# Altium schematic symbol library Duc.SchLib: 308 symbols (part 1 of 2)
Pins are listed as number, name and electrical type; pins without a type are passive.

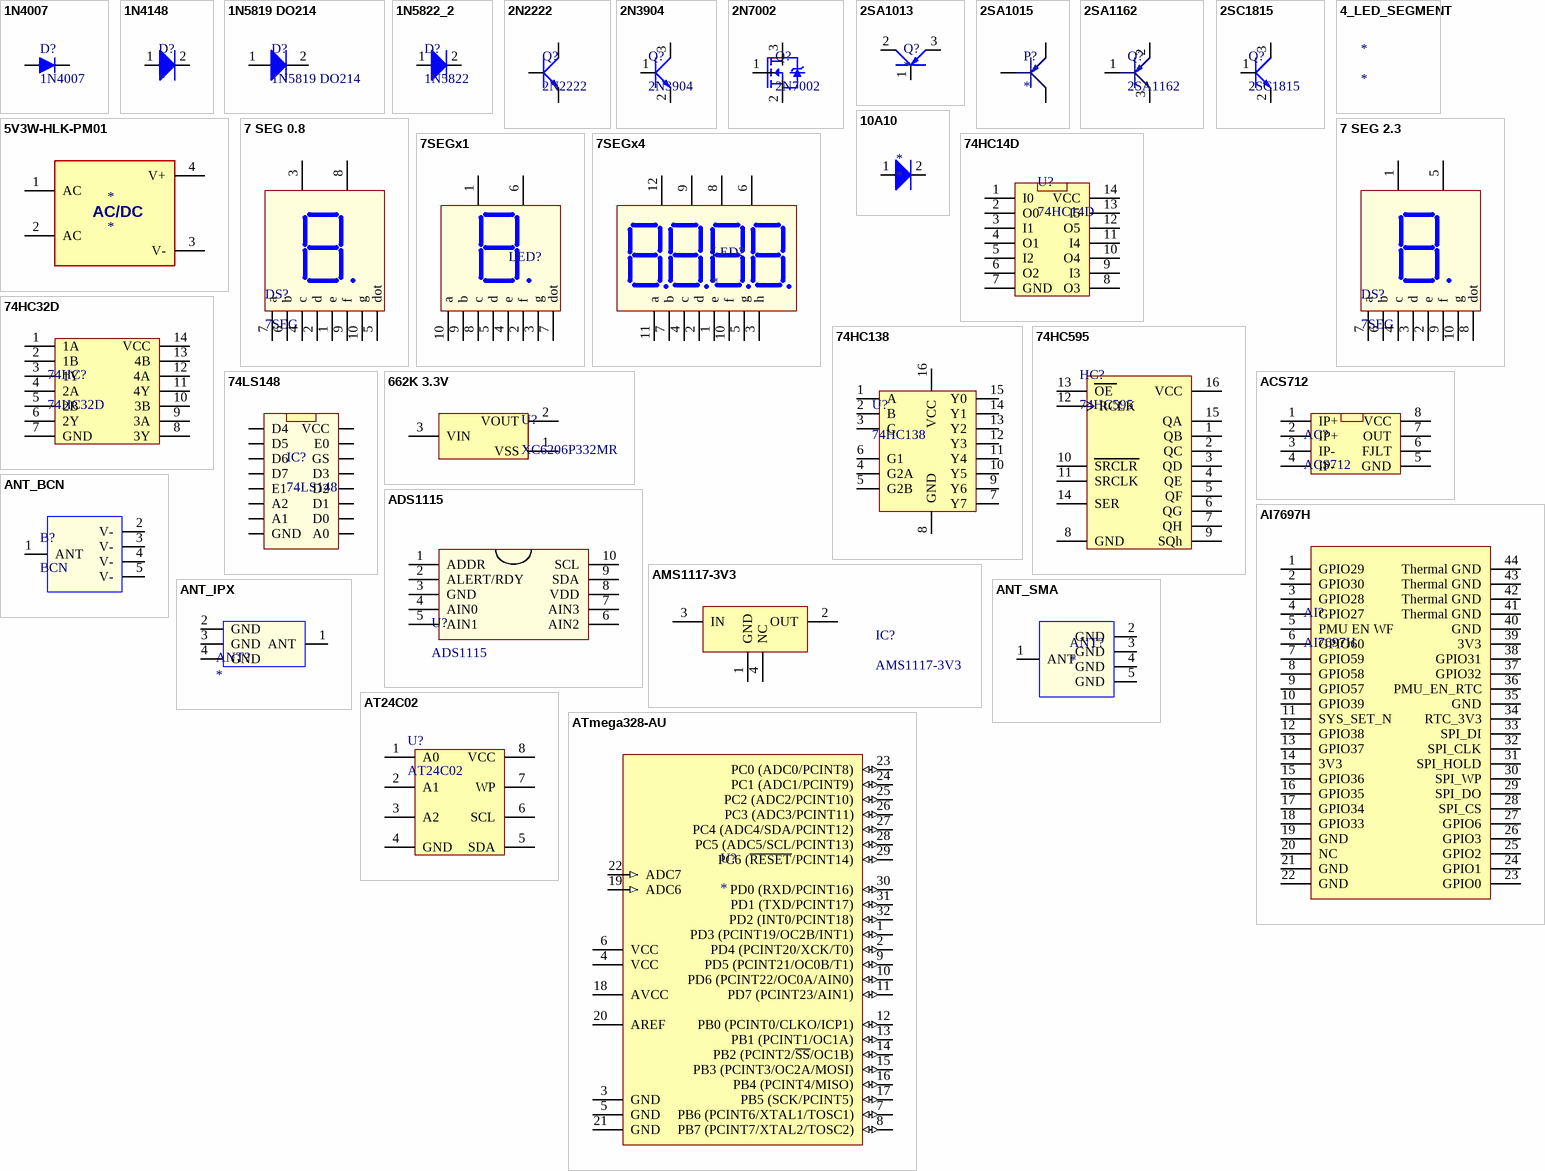
[diagram p0: symbols 1N4007 to ATmega328-AU]

## 1N4007
designator D?
Diode LS 1A 1000V DO-41
footprint 1N4007 (DO-214AC)
pins: 1 A, 2 K

## 1N4148
designator D?
footprint 1N4148
pins: 1 A, 2 K

## 1N5819 DO214
designator D?
footprint 1N5819 DO214 (SMD, Diode SS14 DO214 Schottky 1A 40V)
pins: 1 A, 2 K

## 1N5822_2
designator D?, comment 1N5822
footprint 1N5822 SS34A (SMD, 3A,40V, SS34, DIOT)
pins: 1 A, 2 K

## 2N2222
designator Q?
footprint 2N2222 (NPN transistor)
pins: 1 C, 2 B, 3 E

## 2N3904
designator Q?
footprint 2N3904 SOT23 (SMD, TRANSISTOR NPN)
pins: 1 B, 2 E, 3 C

## 2N7002
designator Q?
footprint 2N7002 (SMD)
pins: 1 G, 2 S, 3 D

## 2SA1013
designator Q?
footprint 2SA1013 (PNP transistor)
pins: 1 B, 2 E, 3 C

## 2SA1015
designator P?
2SA1015 50V 150mA
footprint 2SA1015_SMD (PNP SMD Transistor (No Pb, GP- Green Part), SOT-23 Package)
pins: 1, 2, 3

## 2SA1162
designator Q?
footprint 2SA1162_SMD_PNP (2SA1162,PNP,SMD, TO-236MOD)
pins: 1, 2, 3

## 2SC1815
designator Q?
NPN
footprint 2SC1815 (BJT, through)
footprint 2SC1815-SMD (NPN-VCE=50V,IC=150mA)
pins: 1 B, 2 E, 3 C

## 4_LED_SEGMENT
designator *

## 5V3W-HLK-PM01
designator *
footprint HLK_PM01 5V3W (THOUGH, AC-DC)
footprint PW5V600mA (thought, pow 5V600mA)
pins: 1 AC, 2 AC, 3 V-, 4 V+
text: AC/DC

## 7 SEG 0.8
designator DS?, comment 7SEG
7 SEG 0.8
footprint 7 SEG 0.8 (though, Anot, red)
pins: 1 e, 2 d, 3 GREEN, 4 c, 5 dot, 6 b, 7 a, 8 READ, 9 f, 10 g

## 7 SEG 2.3
designator DS?, comment 7SEG
7 SEG 2.3
footprint 7 SEG 2.3 (thought.)
pins: 1 GREEN, 2 e, 3 d, 4 c, 5 READ, 6 b, 7 a, 8 dot, 9 f, 10 g

## 7SEGx1
designator LED?
footprint 7 SEG 0.36 (0.36 inch LED)
footprint 7 SEG 0.56 (0.56 inch LED)
pins: 1 Vcc, 2 f, 3 g, 4 e, 5 d, 6 Vcc, 7 dot, 8 c, 9 b, 10 a

## 7SEGx4
designator LED?
footprint 7SEGx4 (7segment LED x4)
pins: 1 e, 2 d, 3 h, 4 c, 5 g, 6 V4, 7 b, 8 V3, 9 V2, 10 f, 11 a, 12 V1

## 10A10
designator *
footprint 10A10 (DIODE_10A)
pins: 1 A, 2 K

## 74HC14D
designator U?
footprint 74HC14D (74HC14, SO14, SMD.)
pins: 1 I0, 2 O0, 3 I1, 4 O1, 5 I2, 6 O2, 7 GND, 8 O3, 9 I3, 10 O4, 11 I4, 12 O5, 13 I5, 14 VCC

## 74HC32D
designator 74HC?
footprint 74HC32 SMD (Quad 2-input OR Gate, SOIC14)
pins: 1 1A, 2 1B, 3 1Y, 4 2A, 5 2B, 6 2Y, 7 GND, 8 3Y, 9 3A, 10 3B, 11 4Y, 12 4A, 13 4B, 14 VCC

## 74HC138
designator U?
footprint SN74HC138 SMD (R-PDSO-G16)
pins: 1 A, 2 B, 3 C, 4 G2A, 5 G2B, 6 G1, 7 Y7, 8 GND, 9 Y6, 10 Y5, 11 Y4, 12 Y3, 13 Y2, 14 Y1, 15 Y0, 16 VCC

## 74HC595
designator HC?
footprint 74HC595_SMD (SOI-16,SMD)
pins: 1 QB, 2 QC, 3 QD, 4 QE, 5 QF, 6 QG, 7 QH, 8 GND, 9 SQh, 10 SRCLR, 11 SRCLK, 12 RCLK, 13 OE, 14 SER, 15 QA, 16 VCC

## 74LS148
designator IC?
footprint DIP16 (Though.)
pins: 1 D4, 2 D5, 3 D6, 4 D7, 5 E1, 6 A2, 7 A1, 8 GND, 9 A0, 10 D0, 11 D1, 12 D2, 13 D3, 14 GS, 15 E0, 16 VCC

## 662K 3.3V
designator U?, comment XC6206P332MR
footprint 662K 3.3V (3.3V 0.5A SOT-23)
pins: 1 VSS, 2 VOUT, 3 VIN

## ACS712
designator AC?
ACS712 30A
footprint ACS712 (ACS712, SMD)
pins: 1 IP+, 2 IP+, 3 IP-, 4 IP-, 5 GND, 6 FJLT, 7 OUT, 8 VCC

## ADS1115
designator U?
footprint ADS1115 (DGS(S-PDSO-G10))
pins: 1 ADDR, 2 ALERT/RDY, 3 GND, 4 AIN0, 5 AIN1, 6 AIN2, 7 AIN3, 8 VDD, 9 SDA, 10 SCL

## AI7697H
designator AI?
AI7697H ACSHIP
footprint AI7697H (ic wifi ACSHIP, SMD)
pins: 1 GPIO29, 2 GPIO30, 3 GPIO28, 4 GPIO27, 5 PMU EN WF, 6 GPIO60, 7 GPIO59, 8 GPIO58, 9 GPIO57, 10 GPIO39, 11 SYS_SET_N, 12 GPIO38, 13 GPIO37, 14 3V3, 15 GPIO36, 16 GPIO35, 17 GPIO34, 18 GPIO33, 19 GND, 20 NC, 21 GND, 22 GND, 23 GPIO0, 24 GPIO1, 25 GPIO2, 26 GPIO3, 27 GPIO6, 28 SPI_CS, 29 SPI_DO, 30 SPI_WP, 31 SPI_HOLD, 32 SPI_CLK, 33 SPI_DI, 34 RTC_3V3, 35 GND, 36 PMU_EN_RTC, 37 GPIO32, 38 GPIO31, 39 3V3, 40 GND, 41 Thermal GND, 42 Thermal GND, 43 Thermal GND, 44 Thermal GND

## AMS1117-3V3
designator IC?
AMS1117-3.3V 1A SOT-223; ComponentLink1Description: Datasheet; ComponentLink1URL: D:\Dropbox\Datasheets\Power Management ICs\Linear Regulators\AMS1117.pdf; Unit Price: 0.2000
footprint AMS1117 (SOT223, 4-Leads, Body 6.7x7.3mm (max), Pitch 2.30mm, IPC Medium Density)
pins: 1 GND, 2 OUT, 3 IN, 4 NC

## ANT_BCN
designator B?, comment BCN
ANT_BCN
footprint CONNECTOR BCN (connector bnc female)
pins: 1 ANT, 2 V-, 3 V-, 4 V-, 5 V-

## ANT_IPX
designator ANT?
footprint ANT-IPX-SMD (0­6GHz GSM,  GPRS & CDMA mobile Phones)
pins: 1 ANT, 2 GND, 3 GND, 4 GND

## ANT_SMA
designator ANT?
footprint ANT-SMA-ST-F (SMA Straight PCB Female Connector 50 ohm)
pins: 1 ANT, 2 GND, 3 GND, 4 GND, 5 GND

## AT24C02
designator U?
footprint AT24C02 (SMD,)
pins: 1 A0, 2 A1, 3 A2, 4 GND, 5 SDA, 6 SCL, 7 WP, 8 VCC

## ATmega328-AU
designator U?
8-bit AVR Microcontroller, 32KB Flash, 1KB EEPROM, 2KB SRAM, 32-pin TQFP, Industrial Grade (-40°C to 85°C)
footprint TQFP32 (Thin QFP, 32-Leads, Body 9x9mm, Pitch 0.8mm, IPC Low Density)
pins: 1 PD3 (PCINT19/OC2B/INT1) (io), 2 PD4 (PCINT20/XCK/T0) (io), 3 GND (power), 4 VCC (power), 5 GND (power), 6 VCC (power), 7 PB6 (PCINT6/XTAL1/TOSC1) (io), 8 PB7 (PCINT7/XTAL2/TOSC2) (io), 9 PD5 (PCINT21/OC0B/T1) (io), 10 PD6 (PCINT22/OC0A/AIN0) (io), 11 PD7 (PCINT23/AIN1) (io), 12 PB0 (PCINT0/CLKO/ICP1) (io), 13 PB1 (PCINT1/OC1A) (io), 14 PB2 (PCINT2/~{SS}/OC1B) (io), 15 PB3 (PCINT3/OC2A/MOSI) (io), 16 PB4 (PCINT4/MISO) (io), 17 PB5 (SCK/PCINT5) (io), 18 AVCC (power), 19 ADC6 (in), 20 AREF, 21 GND (power), 22 ADC7 (in), 23 PC0 (ADC0/PCINT8) (io), 24 PC1 (ADC1/PCINT9) (io), 25 PC2 (ADC2/PCINT10) (io), 26 PC3 (ADC3/PCINT11) (io), 27 PC4 (ADC4/SDA/PCINT12) (io), 28 PC5 (ADC5/SCL/PCINT13) (io), 29 PC6 (~{RESET}/PCINT14) (io), 30 PD0 (RXD/PCINT16) (io), 31 PD1 (TXD/PCINT17) (io), 32 PD2 (INT0/PCINT18) (io)

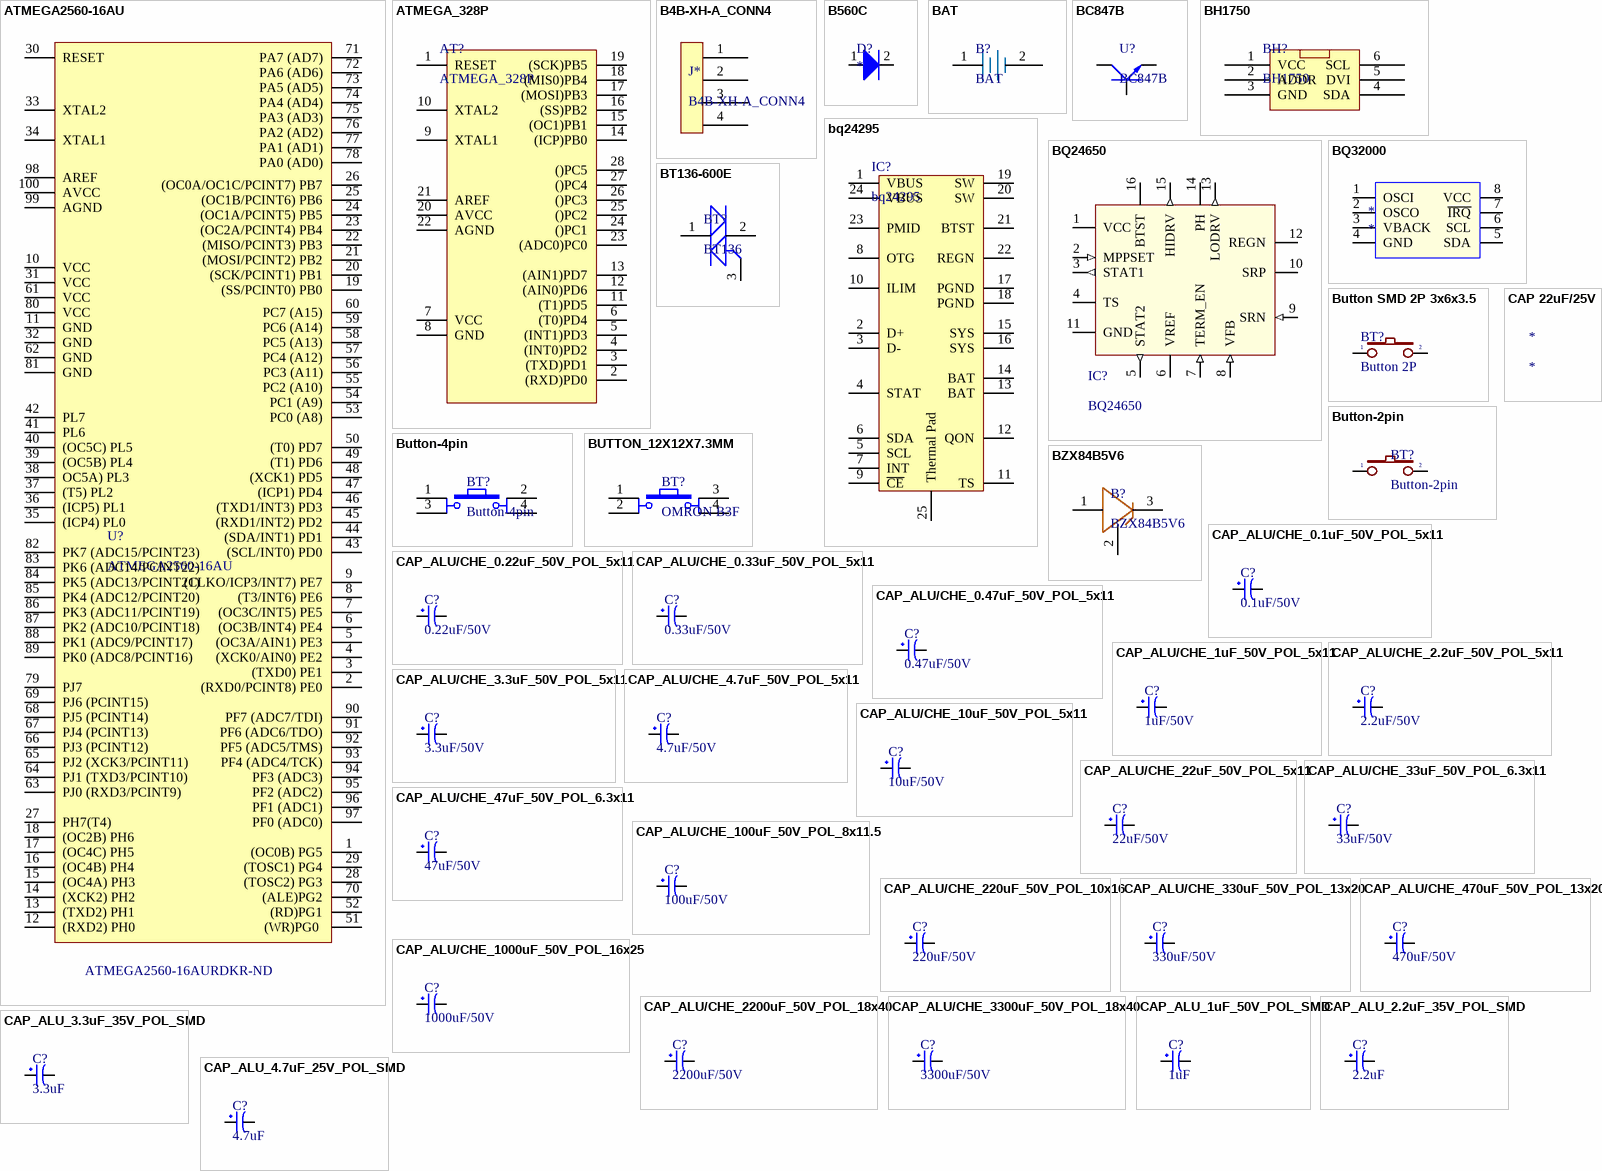
[diagram p1: symbols ATMEGA2560-16AU to CAP_ALU_4.7uF_25V_POL_SMD]

## ATMEGA2560-16AU
designator U?  Supplier Part Number 1: ATMEGA2560-16AURDKR-ND
Manufacturer: Microchip / Atmel; Manufacturer Part Number: ATMEGA2560-16AUR; Core: AVR; Data Bus Width: 8 bit; Supplier 1: Digi-Key; Stock 1: 8300; Pricing 1: 1=12.59, 25=11.5396, 100=10.4475 (USD); Product Category: 8-bit Microcontrollers - MCU; Packaging: Reel; Factory Pack Quantity: 1500; RoHS: Details; ComponentLink1URL: https://datasheet.ciiva.com/6641/atmel-2549-8-bit-avr-microcontroller-atmega640-1280-1281-2560-2561-summary-6641242.pdf; ComponentLink1Description: https://datasheet.ciiva.com/6641/atmel-2549-8-bit-avr-microcontroller-atmega640-1280-1281-2560-2561-summary-6641242.pdf; ComponentLink2URL: https://datasheet.ciiva.com/6641/atmel-2549-8-bit-avr-microcontroller-atmega640-1280-1281-2560-2561-summary-6641243.pdf; ComponentLink2Description: https://datasheet.ciiva.com/6641/atmel-2549-8-bit-avr-microcontroller-atmega640-1280-1281-2560-2561-summary-6641243.pdf; ComponentLink3URL: https://datasheet.ciiva.com/6641/atmel-2549-8-bit-avr-microcontroller-atmega640-1280-1281-2560-2561-summary-6641244.pdf; ComponentLink3Description: https://datasheet.ciiva.com/6641/atmel-2549-8-bit-avr-microcontroller-atmega640-1280-1281-2560-2561-summary-6641244.pdf
footprint Atmega2560-16Au (100A, TQFP)
pins: 1 (OC0B) PG5, 2 (RXD0/PCINT8) PE0, 3 (TXD0) PE1, 4 (XCK0/AIN0) PE2, 5 (OC3A/AIN1) PE3, 6 (OC3B/INT4) PE4, 7 (OC3C/INT5) PE5, 8 (T3/INT6) PE6, 9 (CLKO/ICP3/INT7) PE7, 10 VCC, 11 GND, 12 (RXD2) PH0, 13 (TXD2) PH1, 14 (XCK2) PH2, 15 (OC4A) PH3, 16 (OC4B) PH4, 17 (OC4C) PH5, 18 (OC2B) PH6, 19 (SS/PCINT0) PB0, 20 (SCK/PCINT1) PB1, 21 (MOSI/PCINT2) PB2, 22 (MISO/PCINT3) PB3, 23 (OC2A/PCINT4) PB4, 24 (OC1A/PCINT5) PB5, 25 (OC1B/PCINT6) PB6, 26 (OC0A/OC1C/PCINT7) PB7, 27 PH7(T4), 28 (TOSC2) PG3, 29 (TOSC1) PG4, 30 RESET, 31 VCC, 32 GND, 33 XTAL2, 34 XTAL1, 35 (ICP4) PL0, 36 (ICP5) PL1, 37 (T5) PL2, 38 OC5A) PL3, 39 (OC5B) PL4, 40 (OC5C) PL5, 41 PL6, 42 PL7, 43 (SCL/INT0) PD0, 44 (SDA/INT1) PD1, 45 (RXD1/INT2) PD2, 46 (TXD1/INT3) PD3, 47 (ICP1) PD4, 48 (XCK1) PD5, 49 (T1) PD6, 50 (T0) PD7, 51 (WR)PG0 , 52 (RD)PG1, 53 PC0 (A8), 54 PC1 (A9), 55 PC2 (A10), 56 PC3 (A11), 57 PC4 (A12), 58 PC5 (A13), 59 PC6 (A14), 60 PC7 (A15), 61 VCC, 62 GND, 63 PJ0 (RXD3/PCINT9), 64 PJ1 (TXD3/PCINT10), 65 PJ2 (XCK3/PCINT11), 66 PJ3 (PCINT12), 67 PJ4 (PCINT13), 68 PJ5 (PCINT14), 69 PJ6 (PCINT15), 70 (ALE)PG2, 71 PA7 (AD7), 72 PA6 (AD6), 73 PA5 (AD5), 74 PA4 (AD4), 75 PA3 (AD3), 76 PA2 (AD2), 77 PA1 (AD1), 78 PA0 (AD0), 79 PJ7, 80 VCC, 81 GND, 82 PK7 (ADC15/PCINT23), 83 PK6 (ADC14/PCINT22), 84 PK5 (ADC13/PCINT21), 85 PK4 (ADC12/PCINT20), 86 PK3 (ADC11/PCINT19), 87 PK2 (ADC10/PCINT18), 88 PK1 (ADC9/PCINT17), 89 PK0 (ADC8/PCINT16), 90 PF7 (ADC7/TDI), 91 PF6 (ADC6/TDO), 92 PF5 (ADC5/TMS), 93 PF4 (ADC4/TCK), 94 PF3 (ADC3), 95 PF2 (ADC2), 96 PF1 (ADC1), 97 PF0 (ADC0), 98 AREF, 99 AGND, 100 AVCC

## ATMEGA_328P
designator AT?
footprint DIP_28 (THOUGT)
pins: 1 RESET, 2 (RXD)PD0, 3 (TXD)PD1, 4 (INT0)PD2, 5 (INT1)PD3, 6 (T0)PD4, 7 VCC, 8 GND, 9 XTAL1, 10 XTAL2, 11 (T1)PD5, 12 (AIN0)PD6, 13 (AIN1)PD7, 14 (ICP)PB0, 15 (OC1)PB1, 16 (SS)PB2, 17 (MOSI)PB3, 18 (MIS0)PB4, 19 (SCK)PB5, 20 AVCC, 21 AREF, 22 AGND, 23 (ADC0)PC0, 24 ()PC1, 25 ()PC2, 26 ()PC3, 27 ()PC4, 28 ()PC5

## B4B-XH-A_CONN4
designator J*
footprint B4B-XH-A_CONN4 (B4B-XH-A_CONN4, though, 2.5mm)
pins: 1, 2, 3, 4

## B560C
designator D?
footprint B560C-13-F
pins: 1 A, 2 K

## BAT
designator B?
footprint PIN CR2032 DIP001 (though, DIP001, CR2032)
footprint Pin CR2032 CH4-2032 (CR2032, CH4-2032,   battery holder, stand, 5.4mm)
footprint PINCR1220 (coin cell holder for CR1220)
footprint PIN 18650 (Battery holder thought)
pins: 1, 2

## BC847B
designator U?
footprint BC847B (SMD, BC847B.)
pins: 1 B, 2 E, 3 C

## BH1750
designator BH?
footprint BH1750FVI (SMD,sensor)
pins: 1 VCC, 2 ADDR, 3 GND, 4 SDA, 5 DVI, 6 SCL

## bq24295
designator IC?
footprint bq24295 (bq24295 I2C controler 3A Single Cell USB charger and Boost)
pins: 1 VBUS, 2 D+, 3 D-, 4 STAT, 5 SCL, 6 SDA, 7 INT, 8 OTG, 9 ~{CE}, 10 ILIM, 11 TS, 12 QON, 13 BAT, 14 BAT, 15 SYS, 16 SYS, 17 PGND, 18 PGND, 19 SW, 20 SW, 21 BTST, 22 REGN, 23 PMID, 24 VBUS, 25 Thermal Pad

## BQ24650
designator IC?
footprint BQ24650-16VQFN (Chargeing the battery)
pins: 1 VCC (power), 2 MPPSET (in), 3 STAT1 (out), 4 TS, 5 STAT2 (out), 6 VREF, 7 TERM_EN (in), 8 VFB (in), 9 SRN (in), 10 SRP, 11 GND, 12 REGN, 13 LODRV (out), 14 PH, 15 HIDRV (out), 16 BTST

## BQ32000
designator *
footprint RTC-BQ32000 (8-SOIC)
pins: 1 OSCI, 2 OSCO, 3 VBACK, 4 GND, 5 SDA, 6 SCL, 7 ~{IRQ}, 8 VCC

## BT136-600E
designator BT?, comment BT136
BT136-600E
footprint BT136S-600E TO252N (SMD, TO252N)
footprint BT136-600E DIP TO220 (DIP, TO220)
pins: 1 T1, 2 T2, 3 G

## Button SMD 2P 3x6x3.5
designator BT?, comment Button 2P
Button switch 2 pins SMD 3x6x3.5mm
footprint BUTTON_2P_SMD (SMD, 3*6*2.5cm)
pins: 1, 2

## Button-2pin
designator BT?
footprint Button2pin (B3F-6020)
footprint BUTTON_2PIN_RIGH
footprint button_Right Angle (Right Angle, though)
footprint BUTTON 2PIN MP3 (3x6x3.5, SMD, 2 PIN, MP3-2X3635)
footprint BUTTON_2P_SMD (SMD, 3*6*2.5cm)
pins: 1, 2

## Button-4pin
designator BT?
footprint Button4pin (KSM0611)
pins: 1, 2, 3, 4

## BUTTON_12X12X7.3MM
designator BT?, comment OMRON B3F
footprint BUTTON_OMRON B3F (THOUGHT,  12X12.)
pins: 1, 2, 3, 4

## BZX84B5V6
designator B?
BZX84B5V6, ZENER DIODES.
footprint BZX84B5V6 (SMD, Zener Diodes.)
pins: 1, 2, 3

## CAP 22uF/25V
designator *

## CAP_ALU/CHE_0.1uF_50V_POL_5x11
designator C?, comment 0.1uF/50V
Use for 0.1/0.22/0.33/0.47/1/2.2/3.3/4.7/10/22 uF Capacitor Through Hole
footprint CAP_xUF_50V_TH_5x11 (Use for 0.1/0.22/0.33/0.47/1/2.2/3.3/4.7/10/22 uF Capacitor Through Hole)
pins: 1, 2

## CAP_ALU/CHE_0.22uF_50V_POL_5x11
designator C?, comment 0.22uF/50V
Use for 0.1/0.22/0.33/0.47/1/2.2/3.3/4.7/10/22 uF Capacitor Through Hole
footprint CAP_xUF_50V_TH_5x11 (Use for 0.1/0.22/0.33/0.47/1/2.2/3.3/4.7/10/22 uF Capacitor Through Hole)
pins: 1, 2

## CAP_ALU/CHE_0.33uF_50V_POL_5x11
designator C?, comment 0.33uF/50V
Use for 0.1/0.22/0.33/0.47/1/2.2/3.3/4.7/10/22 uF Capacitor Through Hole
footprint CAP_xUF_50V_TH_5x11 (Use for 0.1/0.22/0.33/0.47/1/2.2/3.3/4.7/10/22 uF Capacitor Through Hole)
pins: 1, 2

## CAP_ALU/CHE_0.47uF_50V_POL_5x11
designator C?, comment 0.47uF/50V
Use for 0.1/0.22/0.33/0.47/1/2.2/3.3/4.7/10/22 uF Capacitor Through Hole
footprint CAP_xUF_50V_TH_5x11 (Use for 0.1/0.22/0.33/0.47/1/2.2/3.3/4.7/10/22 uF Capacitor Through Hole)
pins: 1, 2

## CAP_ALU/CHE_1uF_50V_POL_5x11
designator C?, comment 1uF/50V
Use for 0.1/0.22/0.33/0.47/1/2.2/3.3/4.7/10/22 uF Capacitor Through Hole
footprint CAP_xUF_50V_TH_5x11 (Use for 0.1/0.22/0.33/0.47/1/2.2/3.3/4.7/10/22 uF Capacitor Through Hole)
pins: 1, 2

## CAP_ALU/CHE_2.2uF_50V_POL_5x11
designator C?, comment 2.2uF/50V
Use for 0.1/0.22/0.33/0.47/1/2.2/3.3/4.7/10/22 uF Capacitor Through Hole
footprint CAP_xUF_50V_TH_5x11 (Use for 0.1/0.22/0.33/0.47/1/2.2/3.3/4.7/10/22 uF Capacitor Through Hole)
pins: 1, 2

## CAP_ALU/CHE_3.3uF_50V_POL_5x11
designator C?, comment 3.3uF/50V
Use for 0.1/0.22/0.33/0.47/1/2.2/3.3/4.7/10/22 uF Capacitor Through Hole
footprint CAP_xUF_50V_TH_5x11 (Use for 0.1/0.22/0.33/0.47/1/2.2/3.3/4.7/10/22 uF Capacitor Through Hole)
pins: 1, 2

## CAP_ALU/CHE_4.7uF_50V_POL_5x11
designator C?, comment 4.7uF/50V
Use for 0.1/0.22/0.33/0.47/1/2.2/3.3/4.7/10/22 uF Capacitor Through Hole
footprint CAP_xUF_50V_TH_5x11 (Use for 0.1/0.22/0.33/0.47/1/2.2/3.3/4.7/10/22 uF Capacitor Through Hole)
pins: 1, 2

## CAP_ALU/CHE_10uF_50V_POL_5x11
designator C?, comment 10uF/50V
Use for 0.1/0.22/0.33/0.47/1/2.2/3.3/4.7/10/22 uF Capacitor Through Hole
footprint CAP_xUF_50V_TH_5x11 (Use for 0.1/0.22/0.33/0.47/1/2.2/3.3/4.7/10/22 uF Capacitor Through Hole)
pins: 1, 2

## CAP_ALU/CHE_22uF_50V_POL_5x11
designator C?, comment 22uF/50V
Use for 0.1/0.22/0.33/0.47/1/2.2/3.3/4.7/10/22 uF Capacitor Through Hole
footprint CAP_xUF_50V_TH_5x11 (Use for 0.1/0.22/0.33/0.47/1/2.2/3.3/4.7/10/22 uF Capacitor Through Hole)
pins: 1, 2

## CAP_ALU/CHE_33uF_50V_POL_6.3x11
designator C?, comment 33uF/50V
Use for 33/47 uF Capacitor Through Hole
footprint CAP_xUF_50V_TH_6.3x11 (Use for 33/47 uF Capacitor Through Hole)
pins: 1, 2

## CAP_ALU/CHE_47uF_50V_POL_6.3x11
designator C?, comment 47uF/50V
Use for 33/47 uF Capacitor Through Hole
footprint CAP_xUF_50V_TH_6.3x11 (Use for 33/47 uF Capacitor Through Hole)
pins: 1, 2

## CAP_ALU/CHE_100uF_50V_POL_8x11.5
designator C?, comment 100uF/50V
Use for 100uF Capacitor Through Hole
footprint CAP_xUF_50V_TH_8x11.5 (Use for 47uF Capacitor Through Hole)
pins: 1, 2

## CAP_ALU/CHE_220uF_50V_POL_10x16
designator C?, comment 220uF/50V
Use for 220uF Capacitor Through Hole
footprint CAP_xUF_50V_TH_10x16 (Use for 220uF Capacitor Through Hole)
pins: 1, 2

## CAP_ALU/CHE_330uF_50V_POL_13x20
designator C?, comment 330uF/50V
Use for 330/470 uF Capacitor Through Hole
footprint CAP_xUF_50V_TH_13x20 (Use for 330/470 uF Capacitor Through Hole)
pins: 1, 2

## CAP_ALU/CHE_470uF_50V_POL_13x20
designator C?, comment 470uF/50V
Use for 330/470 uF Capacitor Through Hole
footprint CAP_xUF_50V_TH_13x20 (Use for 330/470 uF Capacitor Through Hole)
pins: 1, 2

## CAP_ALU/CHE_1000uF_50V_POL_16x25
designator C?, comment 1000uF/50V
Use for 1000uF Capacitor Through Hole
footprint CAP_xUF_50V_TH_16x25 (Use for 1000uF Capacitor Through Hole)
pins: 1, 2

## CAP_ALU/CHE_2200uF_50V_POL_18x40
designator C?, comment 2200uF/50V
Use for 2200uF Capacitor Through Hole
footprint CAP_xUF_50V_TH_13x20 (Use for 330/470 uF Capacitor Through Hole)
pins: 1, 2

## CAP_ALU/CHE_3300uF_50V_POL_18x40
designator C?, comment 3300uF/50V
Use for 3300uF Capacitor Through Hole
footprint CAP_xUF_50V_TH_22x40
footprint CAP_xUF_50V_TH_22x40 - Horizontal
pins: 1, 2

## CAP_ALU_1uF_50V_POL_SMD
designator C?, comment 1uF
Aluminum Capacitor 1uF Size B
footprint CAP_ALU_SIZEB (Panasonic Aluminum Capacitor)
pins: 1, 2

## CAP_ALU_2.2uF_35V_POL_SMD
designator C?, comment 2.2uF
Aluminum Capacitor 2.2uF size B
footprint CAP_ALU_SIZEB (Panasonic Aluminum Capacitor)
pins: 1, 2

## CAP_ALU_3.3uF_35V_POL_SMD
designator C?, comment 3.3uF
Aluminum Capacitor 3.3uF size B
footprint CAP_ALU_SIZEB (Panasonic Aluminum Capacitor)
pins: 1, 2

## CAP_ALU_4.7uF_25V_POL_SMD
designator C?, comment 4.7uF
Aluminum Capacitor 4.7uF size B
footprint CAP_ALU_SIZEB (Panasonic Aluminum Capacitor)
pins: 1, 2

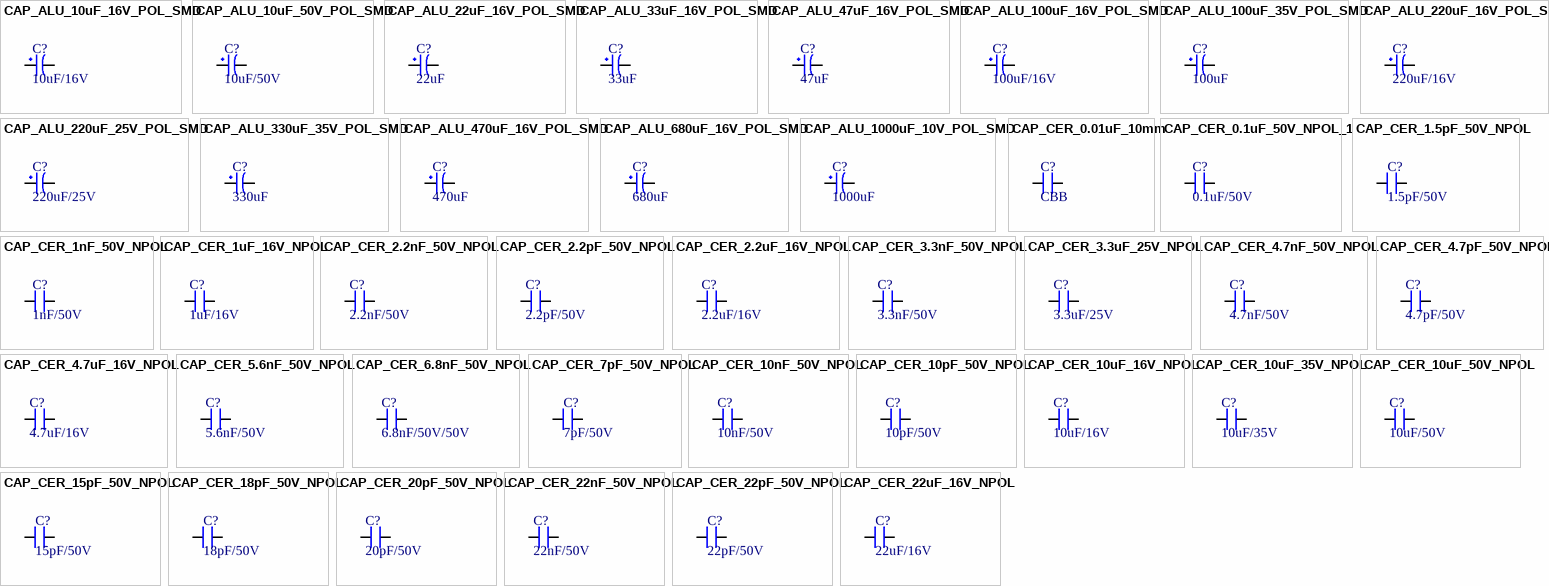
[diagram p2: symbols CAP_ALU_10uF_16V_POL_SMD to CAP_CER_22uF_16V_NPOL]

## CAP_ALU_10uF_16V_POL_SMD
designator C?, comment 10uF/16V
Aluminum Capacitor 10uF size B
footprint CAP_ALU_SIZEB (Panasonic Aluminum Capacitor)
pins: 1, 2

## CAP_ALU_10uF_50V_POL_SMD
designator C?, comment 10uF/50V
Aluminum Capacitor 10uF size B
footprint CAP_ALU_SIZEC (Panasonic Aluminum Capacitor)
pins: 1, 2

## CAP_ALU_22uF_16V_POL_SMD
designator C?, comment 22uF
Aluminum Capacitor 22uF size B
footprint CAP_ALU_SIZEB (Panasonic Aluminum Capacitor)
pins: 1, 2

## CAP_ALU_33uF_16V_POL_SMD
designator C?, comment 33uF
Aluminum Capacitor 33uF size C
footprint CAP_ALU_SIZEC (Panasonic Aluminum Capacitor)
pins: 1, 2

## CAP_ALU_47uF_16V_POL_SMD
designator C?, comment 47uF
Aluminum Capacitor 47uF size D
footprint CAP_ALU_SIZED8 (Panasonic Aluminum Capacitor)
pins: 1, 2

## CAP_ALU_100uF_16V_POL_SMD
designator C?, comment 100uF/16V
Aluminum Capacitor 100uF size E
footprint CAP_ALU_SIZEE (Panasonic Aluminum Capacitor)
pins: 1, 2

## CAP_ALU_100uF_35V_POL_SMD
designator C?, comment 100uF
Aluminum Capacitor 100uF size D
footprint CAP_ALU_SIZED8 (Panasonic Aluminum Capacitor)
pins: 1, 2

## CAP_ALU_220uF_16V_POL_SMD
designator C?, comment 220uF/16V
Aluminum Capacitor 220uF size D8
footprint CAP_ALU_SIZED8 (Panasonic Aluminum Capacitor)
pins: 1, 2

## CAP_ALU_220uF_25V_POL_SMD
designator C?, comment 220uF/25V
Capacitor Aluminum 220uF/25V size E
footprint CAP_ALU_SIZEE (Panasonic Aluminum Capacitor)
pins: 1, 2

## CAP_ALU_330uF_35V_POL_SMD
designator C?, comment 330uF
Aluminum Capacitor 330uF size G
footprint CAP_ALU_SIZEG (Panasonic Aluminum Capacitor)
pins: 1, 2

## CAP_ALU_470uF_16V_POL_SMD
designator C?, comment 470uF
Aluminum Capacitor 220uF size F
footprint CAP_ALU_SIZEF (Panasonic Aluminum Capacitor)
pins: 1, 2

## CAP_ALU_680uF_16V_POL_SMD
designator C?, comment 680uF
Capacitor Aluminum 680uF/16V size G
footprint CAP_ALU_SIZEG (Panasonic Aluminum Capacitor)
pins: 1, 2

## CAP_ALU_1000uF_10V_POL_SMD
designator C?, comment 1000uF
Aluminum Capacitor 680uF size G
footprint CAP_ALU_SIZEG (Panasonic Aluminum Capacitor)
pins: 1, 2

## CAP_CER_0.01uF_10mm
designator C?, comment CBB
CAP_CER_0.01uF_10mm
footprint Capacitor CBB21 10mm (Capacitor CBB21, 10mm, w=12mm)
pins: 1, 2

## CAP_CER_0.1uF_50V_NPOL_1
designator C?, comment 0.1uF/50V
Ceramic Capacitor 1nF/50V (+-20% TH)/(+10%SMD)
footprint CAP_10x_TH (CAP 10x)
footprint Cap 0805(2012) (Capacitor 0805)
footprint CAP 0603(1508) (Capacitor 0603)
footprint CAP 1206(3216) (Capacitor 1206)
pins: 1, 2

## CAP_CER_1.5pF_50V_NPOL
designator C?, comment 1.5pF/50V
Ceramic Capacitor 1.5pF/50V (+-10% TH)/(+5%SMD)
footprint Cap 0805(2012) (Capacitor 0805)
pins: 1, 2

## CAP_CER_1nF_50V_NPOL
designator C?, comment 1nF/50V
Ceramic Capacitor 1nF/50V (+-20% TH)/(+10%SMD)
footprint CAP_10x_TH (CAP 10x)
footprint Cap 0805(2012) (Capacitor 0805)
footprint CAP 0603(1508) (Capacitor 0603)
pins: 1, 2

## CAP_CER_1uF_16V_NPOL
designator C?, comment 1uF/16V
Ceramic Capacitor 1uF/16V (+-10% TH)/(+10%SMD)
footprint Cap 0805(2012) (Capacitor 0805)
footprint CAP 0603(1508) (Capacitor 0603)
pins: 1, 2

## CAP_CER_2.2nF_50V_NPOL
designator C?, comment 2.2nF/50V
Ceramic Capacitor 2.2nF/50V (+-10% TH)/(+10%SMD)
footprint Cap 0805(2012) (Capacitor 0805)
footprint CAP 0603(1508) (Capacitor 0603)
pins: 1, 2

## CAP_CER_2.2pF_50V_NPOL
designator C?, comment 2.2pF/50V
Ceramic Capacitor 2.2pF/50V (+-10% TH)/(+10%SMD)
footprint CAP 0603(1508) (Capacitor 0603)
pins: 1, 2

## CAP_CER_2.2uF_16V_NPOL
designator C?, comment 2.2uF/16V
Ceramic Capacitor 2.2uF/16V (+-10% TH)/(+10%SMD)
footprint Cap 0805(2012) (Capacitor 0805)
pins: 1, 2

## CAP_CER_3.3nF_50V_NPOL
designator C?, comment 3.3nF/50V
Ceramic Capacitor 3.3nF/50V (+-10% TH)/(+10%SMD)
footprint Cap 0805(2012) (Capacitor 0805)
footprint CAP 0603(1508) (Capacitor 0603)
pins: 1, 2

## CAP_CER_3.3uF_25V_NPOL
designator C?, comment 3.3uF/25V
Ceramic Capacitor 3.3uF/25V (+-10% TH)/(+10%SMD)
footprint Cap 0805(2012) (Capacitor 0805)
pins: 1, 2

## CAP_CER_4.7nF_50V_NPOL
designator C?, comment 4.7nF/50V
Ceramic Capacitor 4.7nF/50V (+-10% TH)/(+10%SMD)
footprint Cap 0805(2012) (Capacitor 0805)
pins: 1, 2

## CAP_CER_4.7pF_50V_NPOL
designator C?, comment 4.7pF/50V
Ceramic Capacitor 4.7pF/50V (+-10% TH)/(+10%SMD)
footprint Cap 0805(2012) (Capacitor 0805)
pins: 1, 2

## CAP_CER_4.7uF_16V_NPOL
designator C?, comment 4.7uF/16V
Ceramic Capacitor 4.7uF/16V (+-10% TH)/(+10%SMD)
footprint Cap 0805(2012) (Capacitor 0805)
footprint CAP 0603(1508) (Capacitor 0603)
footprint CAP 1210(3225) (Capacitor 1210)
pins: 1, 2

## CAP_CER_5.6nF_50V_NPOL
designator C?, comment 5.6nF/50V
Ceramic Capacitor 5.6nF/50V (+-10% TH)/(+10%SMD)
footprint Cap 0805(2012) (Capacitor 0805)
pins: 1, 2

## CAP_CER_6.8nF_50V_NPOL
designator C?, comment 6.8nF/50V/50V
Ceramic Capacitor 6.8nF/50V (+-10% TH)/(+10%SMD)
footprint Cap 0805(2012) (Capacitor 0805)
pins: 1, 2

## CAP_CER_7pF_50V_NPOL
designator C?, comment 7pF/50V
Ceramic Capacitor 7pF/50V (+-10% TH)/(+5%SMD)
footprint Cap 0805(2012) (Capacitor 0805)
pins: 1, 2

## CAP_CER_10nF_50V_NPOL
designator C?, comment 10nF/50V
Ceramic Capacitor 10nF/50V (+-10% TH)/(+10%SMD)
footprint CAP_10x_TH (CAP 10x)
footprint CAP 0603(1508) (Capacitor 0603)
footprint Cap 0805(2012) (Capacitor 0805)
pins: 1, 2

## CAP_CER_10pF_50V_NPOL
designator C?, comment 10pF/50V
Ceramic Capacitor 10pF/50V (+-10% TH)/(+10%SMD)
footprint CAP 0603(1508) (Capacitor 0603)
footprint Cap 0805(2012) (Capacitor 0805)
pins: 1, 2

## CAP_CER_10uF_16V_NPOL
designator C?, comment 10uF/16V
Ceramic Capacitor 10uF/16V (+-10% TH)/(+10%SMD)
footprint Cap 0805(2012) (Capacitor 0805)
footprint CAP 0603(1508) (Capacitor 0603)
pins: 1, 2

## CAP_CER_10uF_35V_NPOL
designator C?, comment 10uF/35V
Ceramic Capacitor 10uF/35V (+-10% TH)/(+10%SMD)
footprint CAP 1210(3225) (Capacitor 1210)
pins: 1, 2

## CAP_CER_10uF_50V_NPOL
designator C?, comment 10uF/50V
Ceramic Capacitor 10uF/50V (+-10% TH)/(+10%SMD)
footprint CAP 1210(3225) (Capacitor 1210)
pins: 1, 2

## CAP_CER_15pF_50V_NPOL
designator C?, comment 15pF/50V
Ceramic Capacitor 15pF/50V (+-10% TH)/(+5%SMD)
footprint CAP_10x_TH (CAP 10x)
footprint CAP 0603(1508) (Capacitor 0603)
footprint Cap 0805(2012) (Capacitor 0805)
pins: 1, 2

## CAP_CER_18pF_50V_NPOL
designator C?, comment 18pF/50V
Ceramic Capacitor 18pF/50V (+-10% TH)/(+5%SMD)
footprint CAP_10x_TH (CAP 10x)
footprint CAP 0603(1508) (Capacitor 0603)
footprint Cap 0805(2012) (Capacitor 0805)
pins: 1, 2

## CAP_CER_20pF_50V_NPOL
designator C?, comment 20pF/50V
Ceramic Capacitor 20pF/50V (+-10% TH)/(+5%SMD)
footprint CAP 0603(1508) (Capacitor 0603)
pins: 1, 2

## CAP_CER_22nF_50V_NPOL
designator C?, comment 22nF/50V
Ceramic Capacitor 22nF/50V (+-10% TH)/(+10%SMD)
footprint Cap 0805(2012) (Capacitor 0805)
pins: 1, 2

## CAP_CER_22pF_50V_NPOL
designator C?, comment 22pF/50V
Ceramic Capacitor 22pF/50V (+-10% TH)/(+5%SMD)
footprint CAP_10x_TH (CAP 10x)
footprint CAP 0603(1508) (Capacitor 0603)
footprint Cap 0805(2012) (Capacitor 0805)
pins: 1, 2

## CAP_CER_22uF_16V_NPOL
designator C?, comment 22uF/16V
Ceramic Capacitor 22uF/16V (+-10% TH)/(+5%SMD)
footprint CAP 1210(3225) (Capacitor 1210)
pins: 1, 2

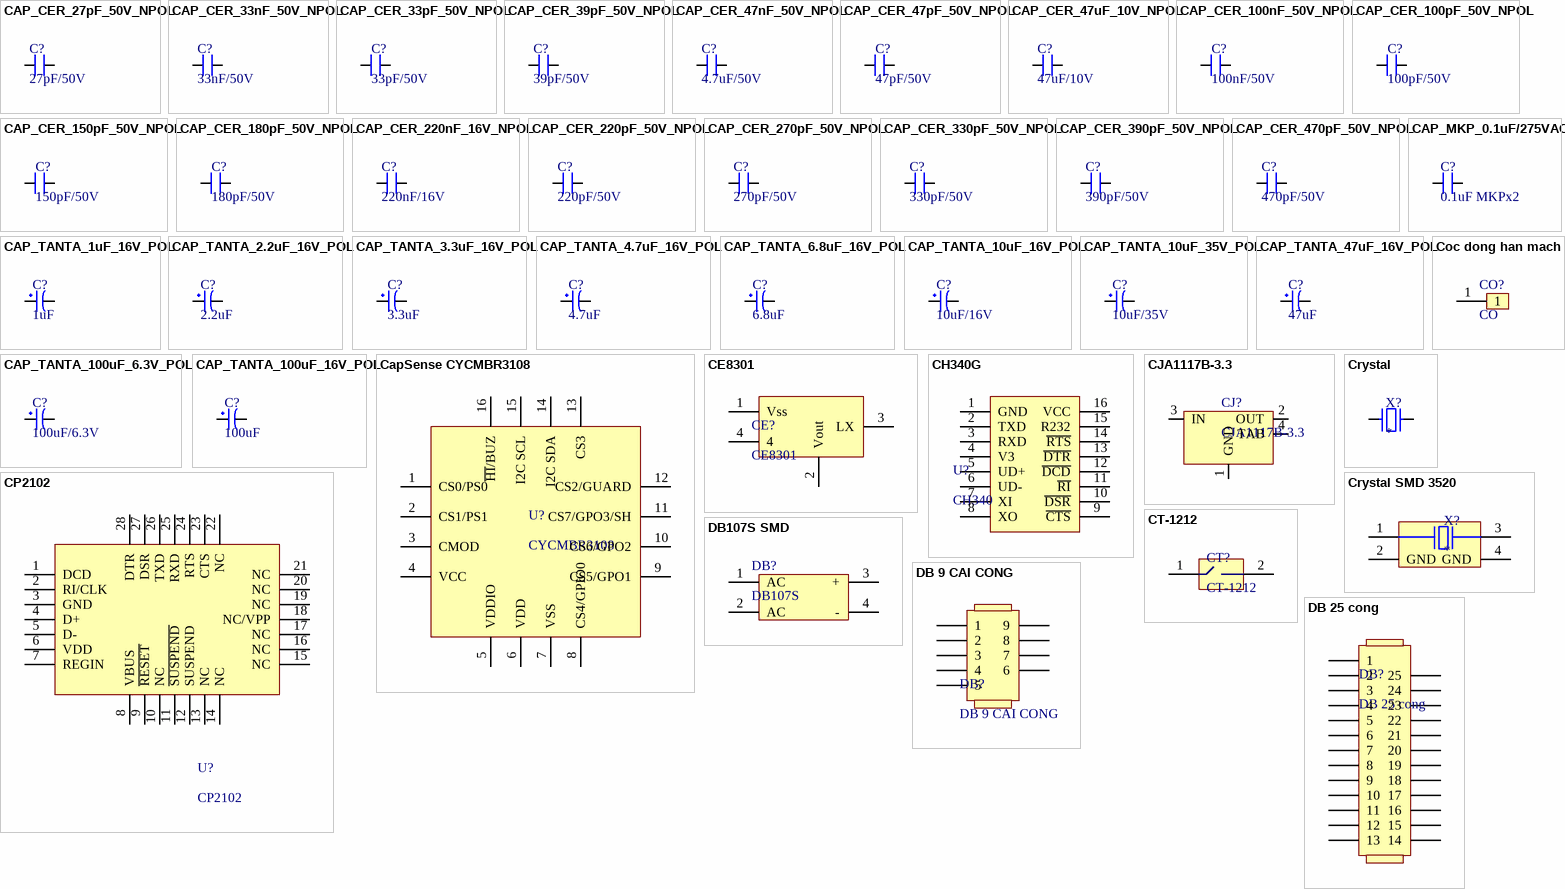
[diagram p3: symbols CAP_CER_27pF_50V_NPOL to DB 25 cong]

## CAP_CER_27pF_50V_NPOL
designator C?, comment 27pF/50V
Ceramic Capacitor 27pF/50V (+-10% TH)/(+10%SMD)
footprint Cap 0805(2012) (Capacitor 0805)
footprint CAP 0603(1508) (Capacitor 0603)
pins: 1, 2

## CAP_CER_33nF_50V_NPOL
designator C?, comment 33nF/50V
Ceramic Capacitor 33nF/50V (+-10% TH)/(+10%SMD)
footprint Cap 0805(2012) (Capacitor 0805)
pins: 1, 2

## CAP_CER_33pF_50V_NPOL
designator C?, comment 33pF/50V
Ceramic Capacitor 33pF/50V (+-10% TH)/(+5%SMD)
footprint CAP_10x_TH (CAP 10x)
footprint CAP 0603(1508) (Capacitor 0603)
footprint Cap 0805(2012) (Capacitor 0805)
pins: 1, 2

## CAP_CER_39pF_50V_NPOL
designator C?, comment 39pF/50V
Ceramic Capacitor 39pF/50V (+-10% TH)/(+10%SMD)
footprint Cap 0805(2012) (Capacitor 0805)
footprint CAP 0603(1508) (Capacitor 0603)
pins: 1, 2

## CAP_CER_47nF_50V_NPOL
designator C?, comment 4.7uF/50V
Ceramic Capacitor 47nF/50V(+-10% TH)/(+10%SMD)
footprint Cap 0805(2012) (Capacitor 0805)
pins: 1, 2

## CAP_CER_47pF_50V_NPOL
designator C?, comment 47pF/50V
Ceramic Capacitor 47pF/50V (+-10% TH)/(+5%SMD)
footprint CAP_10x_TH (CAP 10x)
footprint CAP 0603(1508) (Capacitor 0603)
footprint Cap 0805(2012) (Capacitor 0805)
pins: 1, 2

## CAP_CER_47uF_10V_NPOL
designator C?, comment 47uF/10V
Ceramic Capacitor 47uF/10V(+-10% TH)/(+10%SMD)
footprint CAP 1210(3225) (Capacitor 1210)
pins: 1, 2

## CAP_CER_100nF_50V_NPOL
designator C?, comment 100nF/50V
Ceramic Capacitor 100nF/50V (+-20% TH)/(+10%SMD)
footprint CAP_10x_TH (CAP 10x)
footprint CAP 0603(1508) (Capacitor 0603)
footprint Cap 0805(2012) (Capacitor 0805)
pins: 1, 2

## CAP_CER_100pF_50V_NPOL
designator C?, comment 100pF/50V
Ceramic Capacitor 100pF/50V (+-10% TH)/(+5%SMD)
footprint CAP_10x_TH (CAP 10x)
footprint Cap 0805(2012) (Capacitor 0805)
footprint CAP 0603(1508) (Capacitor 0603)
pins: 1, 2

## CAP_CER_150pF_50V_NPOL
designator C?, comment 150pF/50V
Ceramic Capacitor 150pF/50V (+-10% TH)/(+5%SMD)
footprint Cap 0805(2012) (Capacitor 0805)
pins: 1, 2

## CAP_CER_180pF_50V_NPOL
designator C?, comment 180pF/50V
Ceramic Capacitor 180pF/50V (+-10% TH)/(+5%SMD)
footprint Cap 0805(2012) (Capacitor 0805)
pins: 1, 2

## CAP_CER_220nF_16V_NPOL
designator C?, comment 220nF/16V
Ceramic Capacitor 220nF/16V (+-10% TH)/(+10%SMD)
footprint CAP 0603(1508) (Capacitor 0603)
pins: 1, 2

## CAP_CER_220pF_50V_NPOL
designator C?, comment 220pF/50V
Ceramic Capacitor 220pF/50V (+-10% TH)/(+10%SMD)
footprint Cap 0805(2012) (Capacitor 0805)
pins: 1, 2

## CAP_CER_270pF_50V_NPOL
designator C?, comment 270pF/50V
Ceramic Capacitor 270pF/50V (+-10% TH)/(+10%SMD)
footprint Cap 0805(2012) (Capacitor 0805)
pins: 1, 2

## CAP_CER_330pF_50V_NPOL
designator C?, comment 330pF/50V
Ceramic Capacitor 330pF/50V (+-10% TH)/(+10%SMD)
footprint Cap 0805(2012) (Capacitor 0805)
pins: 1, 2

## CAP_CER_390pF_50V_NPOL
designator C?, comment 390pF/50V
Ceramic Capacitor 390pF/50V (+-10% TH)/(+10%SMD)
footprint Cap 0805(2012) (Capacitor 0805)
pins: 1, 2

## CAP_CER_470pF_50V_NPOL
designator C?, comment 470pF/50V
Ceramic Capacitor 470pF/50V (+-10% TH)/(+10%SMD)
footprint Cap 0805(2012) (Capacitor 0805)
pins: 1, 2

## CAP_MKP_0.1uF/275VAC
designator C?, comment 0.1uF MKPx2
CAP_MKP_0.1uF/275VAC
footprint CAP_MIKA_104/275V (though, 2pin 15.5mm.)
pins: 1, 2

## CAP_TANTA_1uF_16V_POL
designator C?, comment 1uF
Tantalum SMD capacitor 1uF(+-10%),TAJA105K016RNJ
footprint CAP_TAN_1206(3216) (Tantalum Capacitor 1206)
pins: 1, 2

## CAP_TANTA_2.2uF_16V_POL
designator C?, comment 2.2uF
Tantalum SMD capacitor 2.2uF(+-10%), TEESVA1C255K8R
footprint CAP_TAN_1206(3216) (Tantalum Capacitor 1206)
pins: 1, 2

## CAP_TANTA_3.3uF_16V_POL
designator C?, comment 3.3uF
Tantalum SMD capacitor 3.3uF(+-10%), TAJA335K016RNJ
footprint CAP_TAN_1206(3216) (Tantalum Capacitor 1206)
pins: 1, 2

## CAP_TANTA_4.7uF_16V_POL
designator C?, comment 4.7uF
Tantalum SMD capacitor 4.7uF(+-10%),  TAJA475K016RNJ
footprint CAP_TAN_1206(3216) (Tantalum Capacitor 1206)
pins: 1, 2

## CAP_TANTA_6.8uF_16V_POL
designator C?, comment 6.8uF
Tantalum SMD capacitor 6.8uF(+-10%),  TAJA685K016RNJ
footprint CAP_TAN_1206(3216) (Tantalum Capacitor 1206)
pins: 1, 2

## CAP_TANTA_10uF_16V_POL
designator C?, comment 10uF/16V
Tantalum SMD capacitor 10uF(+-10%),TAJA106K010RNJ
footprint CAP_TAN_1206(3216) (Tantalum Capacitor 1206)
pins: 1, 2

## CAP_TANTA_10uF_35V_POL
designator C?, comment 10uF/35V
Tantalum SMD capacitor 10uF(+-10%),TAJA106K010RNJ
footprint CAP_TAN_2917(7343) (Tantalum Capacitor type E 2917)
pins: 1, 2

## CAP_TANTA_47uF_16V_POL
designator C?, comment 47uF
Tantalum SMD capacitor 47uF(+-10%),TAJC476K010RNJ
footprint CAP_TAN_2312(6032) (Tantalum Capacitor type C 6032)
pins: 1, 2

## CAP_TANTA_100uF_6.3V_POL
designator C?, comment 100uF/6.3V
Tantalum SMD capacitor 107J-100uF 6.3V SMD3528
footprint CAP_TAN_1210(3528) (Tantalum Capacitor type B 3528)
pins: 1, 2

## CAP_TANTA_100uF_16V_POL
designator C?, comment 100uF
Tantalum SMD capacitor 100uF(+-10%),TAJD107M016RNJ
footprint CAP_TAN_2917(7343) (Tantalum Capacitor type E 2917)
pins: 1, 2

## CapSense CYCMBR3108
designator U?, comment CYCMBR3108
CapSense CYCMBR3108
footprint CapSense CY8CMBR3108 (CapSense Cypress, 3108, QFN16 PIN)
pins: 1 CS0/PS0, 2 CS1/PS1, 3 CMOD, 4 VCC, 5 VDDIO, 6 VDD, 7 VSS, 8 CS4/GPIO0, 9 CS5/GPO1, 10 CS6/GPO2, 11 CS7/GPO3/SH, 12 CS2/GUARD, 13 CS3, 14 I2C SDA, 15 I2C SCL, 16 ~{HI}/BUZ

## CE8301
designator CE?
footprint CE8301 (IC BOOST DC-DC, SOT-89)
pins: 1 Vss, 2 Vout, 3 LX, 4

## CH340G
designator U?, comment CH340
CH340G USB to serial (UART) bridge
footprint CH340G
pins: 1 GND, 2 TXD, 3 RXD, 4 V3, 5 UD+, 6 UD-, 7 XI, 8 XO, 9 ~{CTS}, 10 ~{DSR}, 11 ~{RI}, 12 ~{DCD}, 13 ~{DTR}, 14 ~{RTS}, 15 R232, 16 VCC

## CJA1117B-3.3
designator CJ?
footprint CJA1117B-3.3 SOT89 (SOT89, SMD)
pins: 1 GND (power), 2 OUT (power), 3 IN (power), 4 OUT (power), 4 TAB

## Coc dong han mach
designator CO?, comment CO
footprint Coc Dong Han Mach (though.)
pins: 1

## CP2102
designator U?
CP2102 USB TO UART
footprint CP2102 QFN-28 (QFN 28, CP2102, USB TO UART)
pins: 1 DCD, 2 RI/CLK, 3 GND, 4 D+, 5 D-, 6 VDD, 7 REGIN, 8 VBUS, 9 ~{RESET}, 10 NC, 11 ~{SUSPEND}, 12 SUSPEND, 13 NC, 14 NC, 15 NC, 16 NC, 17 NC, 18 NC/VPP, 19 NC, 20 NC, 21 NC, 22 NC, 23 CTS, 24 RTS, 25 RXD, 26 TXD, 27 DSR, 28 DTR

## Crystal
designator X?
Crystal through hole
footprint Crystal (HC-49/U-S)
footprint CRYSTAL 32768 (32.768 KHz LOW FREQUENCY CYLINDRICALWATCH CRYSTAL)
footprint Crystal_SMD_16MHz (SMD)
footprint Crystal SMD 5032 (SMD 5032)
pins: 1, 2

## Crystal SMD 3520
designator X?
Crytal SMD 3520
footprint Crystal SMD2520 (Crystal SMD2520 4P)
pins: 1, 2 GND, 3, 4 GND

## CT-1212
designator CT?
footprint CT-1212 (BUTTON ON/OFF.)
footprint Button Switch YT1288 (Button Switch YT1288 2pin, thought)
pins: 1, 2

## DB107S SMD
designator DB?, comment DB107S
DB107S SMD 1A 1000V
footprint Diode DB107S (SMD, Diode c?u 1A, 1000V.)
pins: 1 AC, 2 AC, 3 +, 4 -

## DB 9 CAI CONG
designator DB?
footprint DB9 CONG (Though, conneter)
pins: 1, 2, 3, 4, 5, 6, 7, 8, 9

## DB 25 cong
designator DB?
footprint DB25 Cong (Though, conneter)
pins: 1, 2, 3, 4, 5, 6, 7, 8, 9, 10, 11, 12, 13, 14, 15, 16, 17, 18, 19, 20, 21, 22, 23, 24, 25

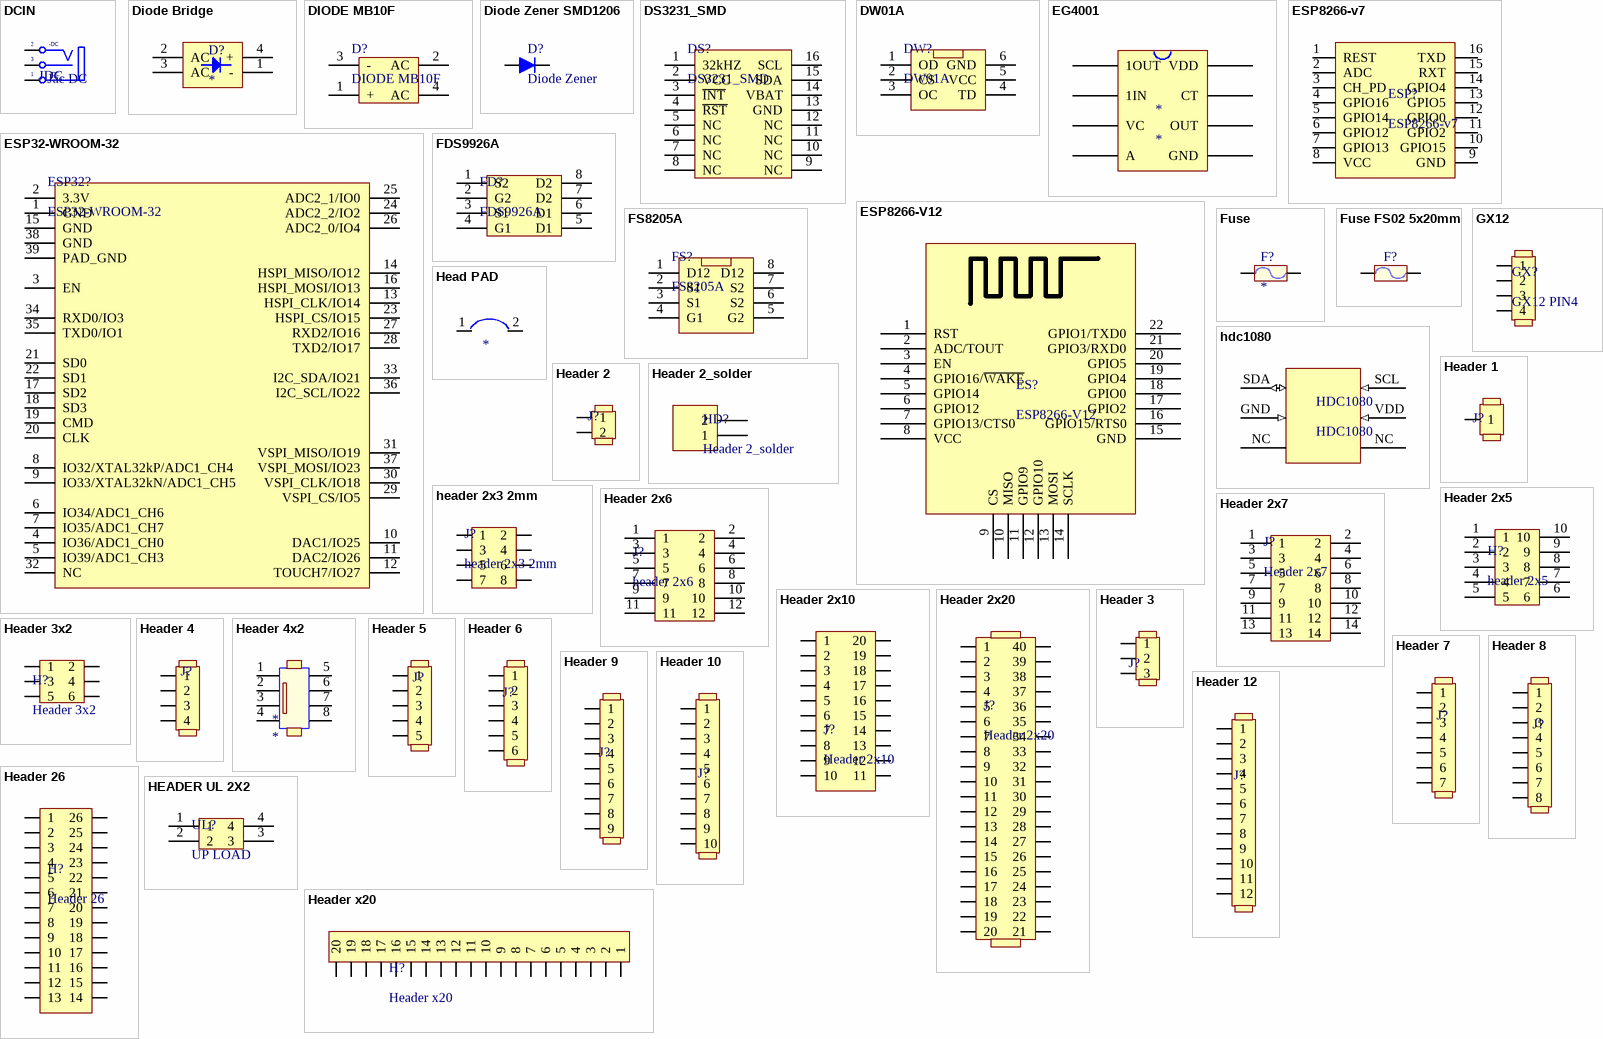
[diagram p4: symbols DCIN to Header x20]

## DCIN
designator JDC, comment Jac DC
Jac DC input; Value: Jac DC
footprint DC socket
pins: 1 T "Tip", 2 TN "Tip Normal (Break Contact)", 3 S (power) "Sleeve (Ground)"
text: -DC; +DC

## Diode Bridge
designator D?
footprint KBU1010-10A (10A BRIDGE RECTIFIER)
pins: 1 - (power), 2 AC (power), 3 AC (power), 4 + (power)

## DIODE MB10F
designator D?
footprint DIODE MB10F
pins: 1 +, 2 AC, 3 -, 4 AC

## Diode Zener SMD1206
designator D?, comment Diode Zener
Diode Zener SMD1206
footprint Diode zener SMD1206
pins: 1 A, 2 K

## DS3231_SMD
designator DS?
footprint DS3231_SMD (SMD, 16SO, W16#H2, 21-0042)
pins: 1 32kHZ, 2 VCC, 3 ~{INT}, 4 ~{RST}, 5 NC, 6 NC, 7 NC, 8 NC, 9 NC, 10 NC, 11 NC, 12 NC, 13 GND, 14 VBAT, 15 SDA, 16 SCL

## DW01A
designator DW?
footprint DW01A (SOT23-6, SMD.)
pins: 1 OD, 2 CS, 3 OC, 4 TD, 5 VCC, 6 GND

## EG4001
designator *
footprint EG4001 (TSOP, 8-Leads, Body 5.15x4.05mm, Pitch 1.27mm, IPC Medium Density)
pins: 1IN, 1OUT, A, CT, GND, OUT, VC, VDD

## ESP32-WROOM-32
designator ESP32?
footprint ESP32-WROOM-32U
pins: 1 GND, 2 3.3V, 3 EN, 4 IO36/ADC1_CH0, 5 IO39/ADC1_CH3, 6 IO34/ADC1_CH6, 7 IO35/ADC1_CH7, 8 IO32/XTAL32kP/ADC1_CH4, 9 IO33/XTAL32kN/ADC1_CH5, 10 DAC1/IO25, 11 DAC2/IO26, 12 TOUCH7/IO27, 13 HSPI_CLK/IO14, 14 HSPI_MISO/IO12, 15 GND, 16 HSPI_MOSI/IO13, 17 SD2, 18 SD3, 19 CMD, 20 CLK, 21 SD0, 22 SD1, 23 HSPI_CS/IO15, 24 ADC2_2/IO2, 25 ADC2_1/IO0, 26 ADC2_0/IO4, 27 RXD2/IO16, 28 TXD2/IO17, 29 VSPI_CS/IO5, 30 VSPI_CLK/IO18, 31 VSPI_MISO/IO19, 32 NC, 33 I2C_SDA/IO21, 34 RXD0/IO3, 35 TXD0/IO1, 36 I2C_SCL/IO22, 37 VSPI_MOSI/IO23, 38 GND, 39 PAD_GND

## ESP8266-v7
designator ESP?
footprint ESP8266-V7 SMD
footprint ESP8266-v7-dip (dip,though)
footprint ESP8266-V7 SMD
pins: 1 REST, 2 ADC, 3 CH_PD, 4 GPIO16, 5 GPIO14, 6 GPIO12, 7 GPIO13, 8 VCC, 9 GND, 10 GPIO15, 11 GPIO2, 12 GPIO0, 13 GPIO5, 14 GPIO4, 15 RXT, 16 TXD

## ESP8266-V12
designator ES?
footprint ESP-8266 V12
pins: 1 RST, 2 ADC/TOUT, 3 EN, 4 GPIO16/~{WAKE}, 5 GPIO14, 6 GPIO12, 7 GPIO13/CTS0, 8 VCC, 9 CS, 10 MISO, 11 GPIO9, 12 GPIO10, 13 MOSI, 14 SCLK, 15 GND, 16 GPIO15/RTS0, 17 GPIO2, 18 GPIO0, 19 GPIO4, 20 GPIO5, 21 GPIO3/RXD0, 22 GPIO1/TXD0

## FDS9926A
designator FD?
footprint SOP8 (1.27mm ; d x r : 4.98 x 3.99)
pins: 1 S2, 2 G2, 3 S1, 4 G1, 5 D1, 6 D1, 7 D2, 8 D2

## FS8205A
designator FS?
footprint FS8205A (TSSOP8, MOSFET, N-2CH)
pins: 1 D12, 2 S1, 3 S1, 4 G1, 5 G2, 6 S2, 7 S2, 8 D12

## Fuse
designator F?
footprint Fuse 5x20
footprint SMD 1812
pins: 1, 2

## Fuse FS02 5x20mm
designator F?, comment FUSE FS02-520  (value not drawn)
footprint dip_FUSE (d? FUSE FS02-520)
pins: 1, 2

## GX12
designator GX?, comment GX12 PIN4
footprint GX12 4PIN (SMD)
pins: 1, 2, 3, 4

## hdc1080
designator HDC1080, comment HDC1080
footprint Model Name (Footprint not found)
footprint HDC1080
pins: GND (in), NC, NC, SCL (in), SDA (io), VDD (in)

## Head PAD
designator ?
footprint head PAD
pins: 1 +, 2 -

## Header 1
designator J?
footprint Header x1 (Header 1)
footprint HEADER 1 SMD
footprint touch pad
pins: 1

## Header 2
designator J?
footprint HEADER x2 (Header 2)
footprint HEADER x2 (2) (Header 2)
footprint header X2_han
footprint HEADER_2_1.25AW (THOUGHT)
footprint DOMINO x2 (Domino x2)
footprint HEADER_2_2MM (HEADER X2 2MM)
footprint KF128 2P 5.08mm (Domino CON2 KF128 5.08mm)
footprint HEADER 2X1(2)
footprint HEADER 2P PH 2.0 T
pins: 1, 2

## Header 2_solder
designator HD?
footprint header_2_solder (thought.)
pins: 1, 2

## header 2x3 2mm
designator J?
footprint header 2x3 2mm
pins: 1, 2, 3, 4, 5, 6, 7, 8

## Header 2x5
designator H?, comment header 2x5
footprint HEADER 2X5
footprint HEADER 2X5 SMD (SMD, HEADER 2.54)
footprint HEADER 2x5 SMD 1.27 (1.27mm, smd)
pins: 1, 2, 3, 4, 5, 6, 7, 8, 9, 10

## Header 2x6
designator J?, comment header 2x6
footprint Header 2x6 2.54 (jump 2.54mm 2x6P)
pins: 1, 2, 3, 4, 5, 6, 7, 8, 9, 10, 11, 12

## Header 2x7
designator J?
footprint Header 2x7
pins: 1, 2, 3, 4, 5, 6, 7, 8, 9, 10, 11, 12, 13, 14

## Header 2x10
designator J?
footprint HEADER 2x10 (Header.)
pins: 1, 2, 3, 4, 5, 6, 7, 8, 9, 10, 11, 12, 13, 14, 15, 16, 17, 18, 19, 20

## Header 2x20
designator J?
footprint DF23C-40DS (DIP SMD)
pins: 1, 2, 3, 4, 5, 6, 7, 8, 9, 10, 11, 12, 13, 14, 15, 16, 17, 18, 19, 20, 21, 22, 23, 24, 25, 26, 27, 28, 29, 30, 31, 32, 33, 34, 35, 36, 37, 38, 39, 40

## Header 3
designator J?
footprint HEADER x3 (Header 3)
footprint HEADER x3(2) (Header 3)
footprint header X3 _Han
footprint HEADER_3_1.25AW (THOUGT)
footprint HEADER_3_2MM
footprint Header 1x3 2mm
footprint HEADER_3_1.25A (thought, header 1.25mm 3P)
pins: 1, 2, 3

## Header 3x2
designator H?
footprint HEADER 2X3
footprint HEADER 2X3 2MM
pins: 1, 2, 3, 4, 5, 6

## Header 4
designator J?
footprint HEADER x4 (Header 4)
footprint HEADER x4(2) (Header 4)
footprint HEADER_4_1.25AW (THOUGHT)
footprint HEADER_4_1.25A (thought,  4P, 1.25 1.25; 4A)
footprint Header 2x2
footprint HEADER x4(2) 2mm (though)
footprint HEADER 4P PH 2.0 T (though)
footprint HEADER 4P PH 2.0 S (header 4P PH 2.0)
footprint HEADER 1X4 2MM
pins: 1, 2, 3, 4

## Header 4x2
designator *
footprint Header 4x2 (Header 2x2)
footprint Header 4x2(2) (Header 4x2)
footprint Header 2x4 2mm (jump 2mm)
pins: 1, 2, 3, 4, 5, 6, 7, 8

## Header 5
designator J?
footprint HEADER x5 (Header 5)
footprint HEADER x5(2) (Header 5)
footprint header_5_SMD_1.25 (SMD, 1.25mm)
footprint HEADERX5(CONG) (THOUGH, 2.54PIN, 5 PIN)
footprint HEADER_5_1.25A (though, 5P, 1.25mm, A)
pins: 1, 2, 3, 4, 5

## Header 6
designator J?
footprint HEADER x6 (Header 6)
footprint HEADER x6(2) (Header 6)
footprint HEADER FEMALE x6 (Header 6)
footprint HEADERX6(CONG) (THOUGHT, AW, 2.54MM)
footprint HEADER_6_1.25A (THOUGHT, 1.25mm, A)
footprint header 1x6 SMD (2.54MM, 1.5X2.6)
pins: 1, 2, 3, 4, 5, 6

## Header 7
designator J?
footprint HEADER x7 (Header 7)
footprint HEADER x7(2) (Header 7)
pins: 1, 2, 3, 4, 5, 6, 7

## Header 8
designator J?
footprint HEADER x8 (Header 8)
footprint HEADER x8(2) (Header 8)
footprint HEADER FEMALE x8 (Header 8)
pins: 1, 2, 3, 4, 5, 6, 7, 8

## Header 9
designator J?
footprint Header x9 (Header 9)
pins: 1, 2, 3, 4, 5, 6, 7, 8, 9

## Header 10
designator J?
footprint Header x10 (Header 10)
footprint HEADER FEMALE x10 (Header 10)
footprint SOCKET FFC/FPC 1.0MM 10P
pins: 1, 2, 3, 4, 5, 6, 7, 8, 9, 10

## Header 12
designator J?
footprint Header x12(2) (Header 12)
pins: 1, 2, 3, 4, 5, 6, 7, 8, 9, 10, 11, 12

## Header 26
designator H?
footprint HEADER 2X13
footprint HEADER FEMALE 2x13
pins: 1, 2, 3, 4, 5, 6, 7, 8, 9, 10, 11, 12, 13, 14, 15, 16, 17, 18, 19, 20, 21, 22, 23, 24, 25, 26

## HEADER UL 2X2
designator UL?, comment UP LOAD
HEADER UL 2X2
footprint HEADER 2X2 (UL FEMALE) (UP LOAD)
pins: 1, 2, 3, 4

## Header x20
designator H?
footprint HEADER X20 (Header 20)
pins: 1, 2, 3, 4, 5, 6, 7, 8, 9, 10, 11, 12, 13, 14, 15, 16, 17, 18, 19, 20

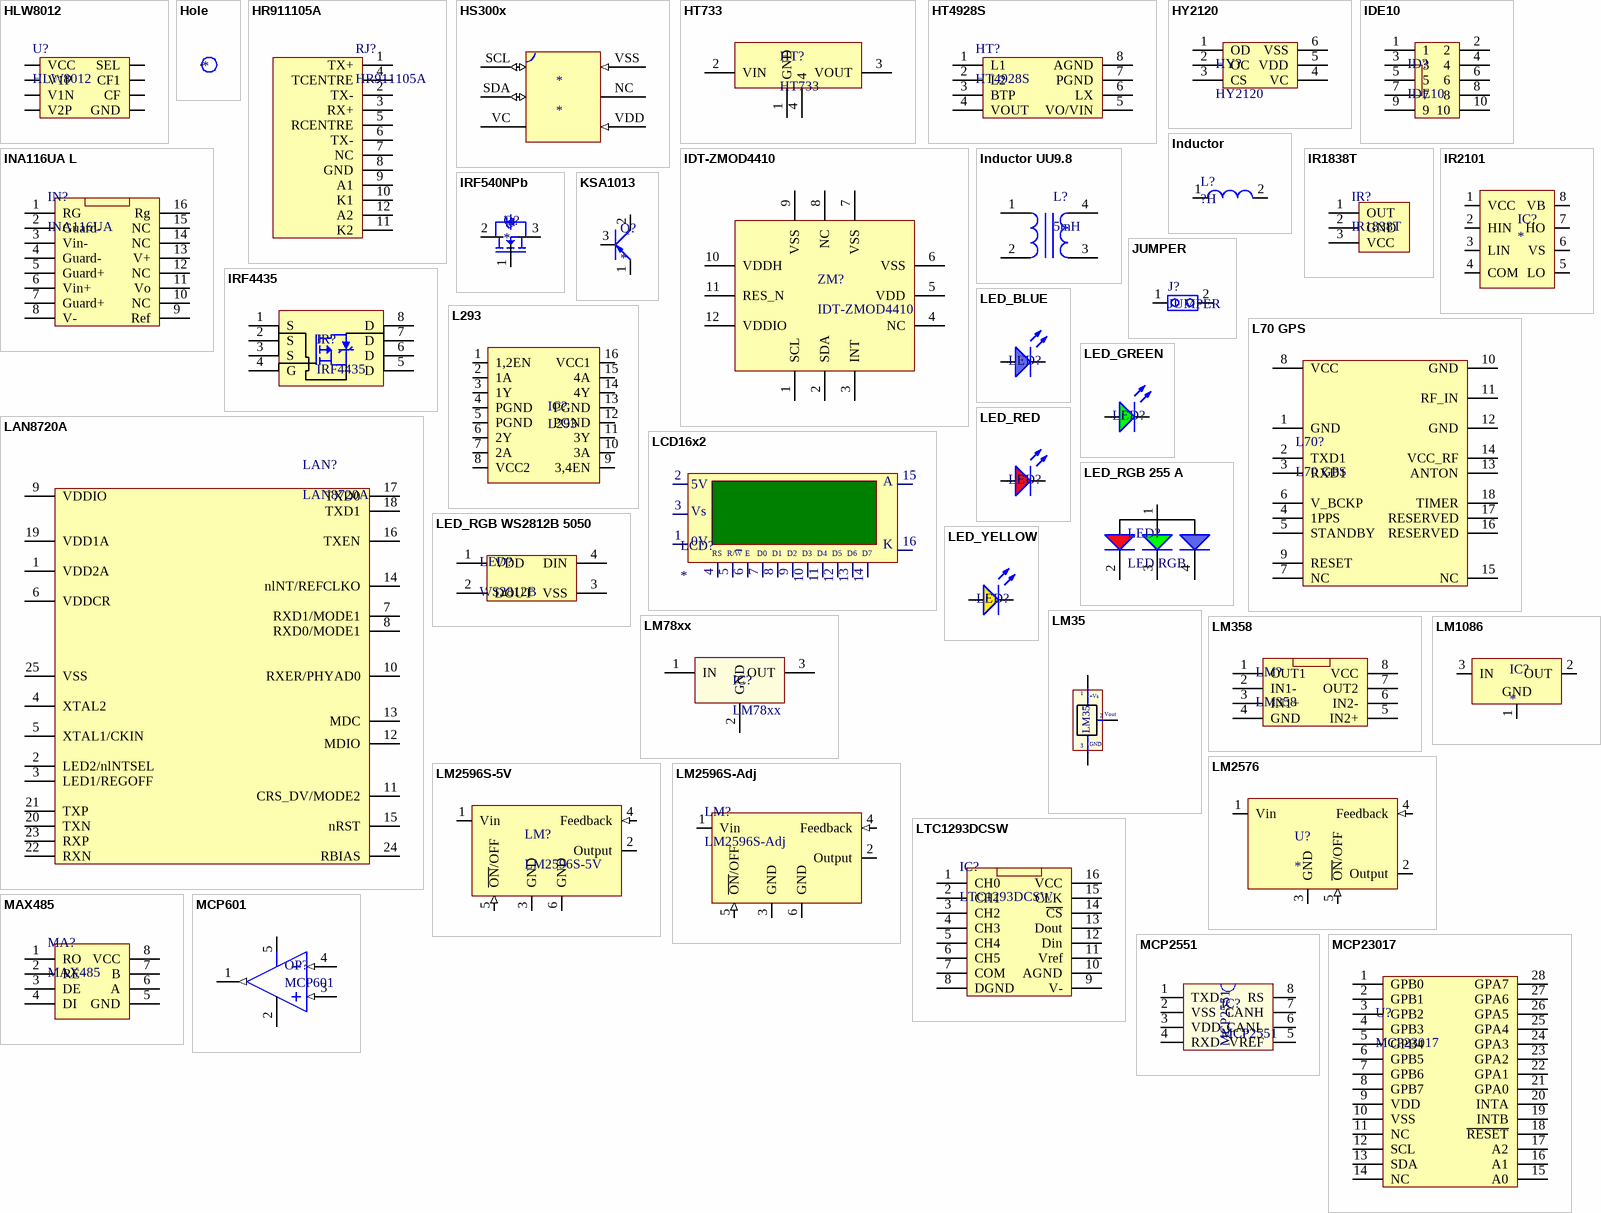
[diagram p5: symbols HLW8012 to MCP23017]

## HLW8012
designator U?
footprint HLW8012 (HLW8012, SOP8)
pins: 1 VCC, 2 V1P, 3 V1N, 4 V2P, 5 GND, 6 CF, 7 CF1, 8 SEL

## Hole
designator ?
footprint Screw 3.0 (Hole 3.0mm)
footprint Screw 3.1 (Hole 3.0mm)
pins: 1

## HR911105A
designator RJ?
HR911105A, RJ45.
footprint HR911103A RJ45 (though, RJ45.)
pins: 1 TX+, 2 TX-, 3 RX+, 4 TCENTRE, 5 RCENTRE, 6 TX-, 7 NC, 8 GND, 9 A1, 10 K1, 11 K2, 12 A2

## HS300x
designator *
footprint HS300x
pins: NC, SCL (io), SDA (io), VC, VDD (in), VSS (in)

## HT733
designator HT?
footprint HT7333 (HT733, SMD)
pins: 1 GND, 2 VIN, 3 VOUT, 4

## HT4928S
designator HT?
footprint HT4928S (SOP8, SMD, 1.27MM)
pins: 1 L1, 2 L2, 3 BTP, 4 VOUT, 5 VO/VIN, 6 LX, 7 PGND, 8 AGND

## HY2120
designator HY?
footprint HY2120CB (SMD, CHARGE 2S PIN)
pins: 1 OD, 2 OC, 3 CS, 4 VC, 5 VDD, 6 VSS

## IDE10
designator ID?
footprint IDE10 (though, 2.54mm)
footprint IDE10 MALE RIGHT ANGLE (RIGHT ANGLE, IDE 10)
pins: 1, 2, 3, 4, 5, 6, 7, 8, 9, 10

## IDT-ZMOD4410
designator ZM?
ComponentLink1Description: IDT-ZMOD4410; ComponentLink1URL: https://www.idt.com/us/en/products/sensor-products/gas-sensors/zmod4410-indoor-air-quality-sensor-platform
footprint IDT-ZMOD4410 (IDT-ZMOD4410, Sensor TVOC)
pins: 1 SCL, 2 SDA, 3 INT, 4 NC, 5 VDD, 6 VSS, 7 VSS, 8 NC, 9 VSS, 10 VDDH, 11 RES_N, 12 VDDIO

## INA116UA L
designator IN?, comment INA116UA
INA116UA L
footprint INA116UA (SMD, SOL 16)
pins: 1 RG, 2 Guard-, 3 Vin-, 4 Guard-, 5 Guard+, 6 Vin+, 7 Guard+, 8 V-, 9 Ref, 10 NC, 11 Vo, 12 NC, 13 V+, 14 NC, 15 NC, 16 Rg

## Inductor
designator L?, comment ?H
footprint Inductor SMD 12x12x8 mm
footprint Inductor SMD 48x48x28mm
footprint Inductor SMD 0805 (SMD, 0805)
footprint Inductor SMD CD43 (Inductor SMD CD43, SMD)
footprint Inductor DIP 2.54 6x8mm (Inductor, DIP 2.54, 6X8MM)
footprint Inductor DIP 5.08 9x12mm
pins: 1, 2

## Inductor UU9.8
designator L?, comment 5mH
Inductor UU9.8
footprint Inductor filter UU9.8
footprint Inductor filter 13x8x5mm
pins: 1, 2, 3, 4

## IR1838T
designator IR?
footprint IR_1838
pins: 1 OUT, 2 GND, 3 VCC

## IR2101
designator IC?
footprint IR2101 (DIP-8)
footprint IR2101 (DIP-8)
pins: 1 VCC, 2 HIN, 3 LIN, 4 COM, 5 LO, 6 VS, 7 HO, 8 VB

## IRF540NPb
designator Q?
pins: 1, 2 D, 3 S

## IRF4435
designator IR?
footprint SOP8 (1.27mm ; d x r : 4.98 x 3.99)
pins: 1 S, 2 S, 3 S, 4 G, 5 D, 6 D, 7 D, 8 D

## JUMPER
designator J?
footprint JUMPER
pins: 1, 2

## KSA1013
designator Q?
footprint KSA1013
pins: 1 E, 2 C, 3 B

## L70 GPS
designator L70?
L70-R GPS Module
footprint GPS L70 (GPS L70, 10.1x9.7.)
pins: 1 GND, 2 TXD1, 3 RXD1, 4 1PPS, 5 STANDBY, 6 V_BCKP, 7 NC, 8 VCC, 9 RESET, 10 GND, 11 RF_IN, 12 GND, 13 ANTON, 14 VCC_RF, 15 NC, 16 RESERVED, 17 RESERVED, 18 TIMER

## L293
designator IC?
footprint L293 (Motor Dirver 1A/channel)
pins: 1 1,2EN, 2 1A, 3 1Y, 4 PGND, 5 PGND, 6 2Y, 7 2A, 8 VCC2, 9 3,4EN, 10 3A, 11 3Y, 12 PGND, 13 PGND, 14 4Y, 15 4A, 16 VCC1

## LAN8720A
designator LAN?
footprint PHY LAN8720A (24-QFN LAN8720A)
pins: 1 VDD2A, 2 LED2/nlNTSEL, 3 LED1/REGOFF, 4 XTAL2, 5 XTAL1/CKIN, 6 VDDCR, 7 RXD1/MODE1, 8 RXD0/MODE1, 9 VDDIO, 10 RXER/PHYAD0, 11 CRS_DV/MODE2, 12 MDIO, 13 MDC, 14 nlNT/REFCLKO, 15 nRST, 16 TXEN, 17 TXD0, 18 TXD1, 19 VDD1A, 20 TXN, 21 TXP, 22 RXN, 23 RXP, 24 RBIAS, 25 VSS

## LCD16x2
designator LCD?
footprint LCD16x2 (ADM1602K-NSW-FBS/3.3V)
footprint LCD16x2 (header) (ADM1602K-NSW-FBS/3.3V)
pins: 1, 2, 3, 4, 5, 6, 7, 8, 9, 10, 11, 12, 13, 14, 15 VCC, 16
text: A; 5V; Vs; 0V; K; RS; R/W; E; D0; D1; D2; D3; D4; D5; D6; D7

## LED_BLUE
designator LED?  (value not drawn)
LED Blue; ComponentLink1Description: Datasheet; ComponentLink1URL: D:\Dropbox\Datasheets\Opto and Illumination\LEDs\SMD LED.pdf; Unit Price: 0.0476; Value: Blue
footprint LED3B3mm (LED 3mm_BLUE)
footprint LED0805BLUE (598 series)
footprint LED_1206_BLUE (SMD, 12x06)
footprint LED_1206_BLUE_BOTLayer
footprint LED_0805_BLUE_BOT
pins: 1 A, 2 K

## LED_GREEN
designator LED?  (value not drawn)
LED Green; ComponentLink1Description: Datasheet; ComponentLink1URL: D:\Dropbox\Datasheets\Opto and Illumination\LEDs\SMD LED.pdf; Unit Price: 0.0476; Value: Green
footprint LED3G3mm (LED 3mm_GREEN)
footprint LED0805GREEN (598 series)
footprint LED_1206_GREEN (SMD, 12x06, Green)
pins: 1 A, 2 K

## LED_RED
designator LED?  (value not drawn)
LED Red; ComponentLink1Description: Datasheet; ComponentLink1URL: D:\Dropbox\Datasheets\Opto and Illumination\LEDs\SMD LED.pdf; Unit Price: 0.0476; Value: Red
footprint LED3R3mm (LED 3mm_RED)
footprint LED0805RED (598 series)
footprint LED_1206_RED (SMD, 12x06)
footprint LED5R5mm (LED 5mm_RED)
footprint LED_1206_RED_BOTLayer
footprint LED_0805_RED_BOT
pins: 1 A, 2 K

## LED_RGB 255 A
designator LED?, comment LED RGB
footprint LED2x5x5 RGB (LED RGB, 2X5X5mm)
footprint LED 5MM RGB (RGB)
pins: 1 A, 2 R, 3 G, 4 B

## LED_RGB WS2812B 5050
designator LED?, comment WS2812B
LED_RGB WS2812B 5050
footprint LED_5050_RGB_WS2812B
pins: 1 VDD, 2 DOUT, 3 VSS, 4 DIN

## LED_YELLOW
designator LED?  (value not drawn)
LED Yellow; ComponentLink1Description: Datasheet; ComponentLink1URL: D:\Dropbox\Datasheets\Opto and Illumination\LEDs\SMD LED.pdf; Unit Price: 0.0476; Value: Yellow
footprint LED3Y3mm (LED 3mm_GREEN)
footprint LED0805YELLOW (598 series)
footprint LED_1206_YELLOW (SMD, 12x06)
pins: 1 A, 2 K

## LM35
designator U?
Teminal; Value: LM35
footprint LM35
pins: 1 +Vs, 2 Vout, 3 -
text: GND

## LM78xx
designator IC?
footprint LM78xx SMD (LM78xx Liner)
pins: 1 IN, 2 GND, 3 OUT

## LM358
designator LM?
footprint LM358 (LM358, SOP8)
pins: 1 OUT1, 2 IN1-, 3 IN1+, 4 GND, 5 IN2+, 6 IN2-, 7 OUT2, 8 VCC

## LM1086
designator IC?
Linear Voltage Regulator 3V3 1.5A 24V Max TO-220
footprint LM1086 (D2PAK)
pins: 1 GND (power), 2 OUT (power), 3 IN (power)

## LM2576
designator U?
Step-Down Switching Regulator 5V 3.0 A 15 V Max
footprint LM2576 TO-263 -5 (TO-263 -5  10.16x13.94, Pitch 1.7mm)
pins: 1 Vin (power), 2 Output (power), 3 GND (power), 4 Feedback (in), 5 ~{ON}/OFF (in)

## LM2596S-5V
designator LM?
IC LM2596S buck 3A 5V
footprint LM2596S TO263-5 (TO263-5, SMD, 5V)
pins: 1 Vin (power), 2 Output (power), 3 GND (power), 4 Feedback (in), 5 ~{ON}/OFF (in), 6 GND

## LM2596S-Adj
designator LM?
IC LM2596S buck 3A
pins: 1 Vin (power), 2 Output (power), 3 GND (power), 4 Feedback (in), 5 ~{ON}/OFF (in), 6 GND

## LTC1293DCSW
designator IC?
footprint LTC1293 DCSWL (SMD, 16-Lead plastic SOL)
pins: 1 CH0, 2 CH1, 3 CH2, 4 CH3, 5 CH4, 6 CH5, 7 COM, 8 DGND, 9 V-, 10 AGND, 11 Vref, 12 Din, 13 Dout, 14 ~{CS}, 15 CLK, 16 VCC

## MAX485
designator MA?
footprint MAX485 (SMD, SOP8, 8PIN, 0.65)
pins: 1 RO, 2 RE, 3 DE, 4 DI, 5 GND, 6 A, 7 B, 8 VCC

## MCP601
designator OP?
footprint MCP601 (Opam)
pins: 1 OUT (out), 2 VSS (power), 3 IN+ (in), 4 IN- (in), 5 VDD

## MCP2551
designator IC?
Transceiver for CANBUS
footprint MCP2551 (DIP8)
pins: 1 TXD, 2 VSS, 3 VDD, 4 RXD, 5 VREF, 6 CANL, 7 CANH, 8 RS

## MCP23017
designator U?
footprint MC23S17 SOIC (MC23S17 SOIC 28 PIN)
pins: 1 GPB0, 2 GPB1, 3 GPB2, 4 GPB3, 5 GPB4, 6 GPB5, 7 GPB6, 8 GPB7, 9 VDD, 10 VSS, 11 NC, 12 SCL, 13 SDA, 14 NC, 15 A0, 16 A1, 17 A2, 18 ~{RESET}, 19 INTB, 20 INTA, 21 GPA0, 22 GPA1, 23 GPA2, 24 GPA3, 25 GPA4, 26 GPA5, 27 GPA6, 28 GPA7

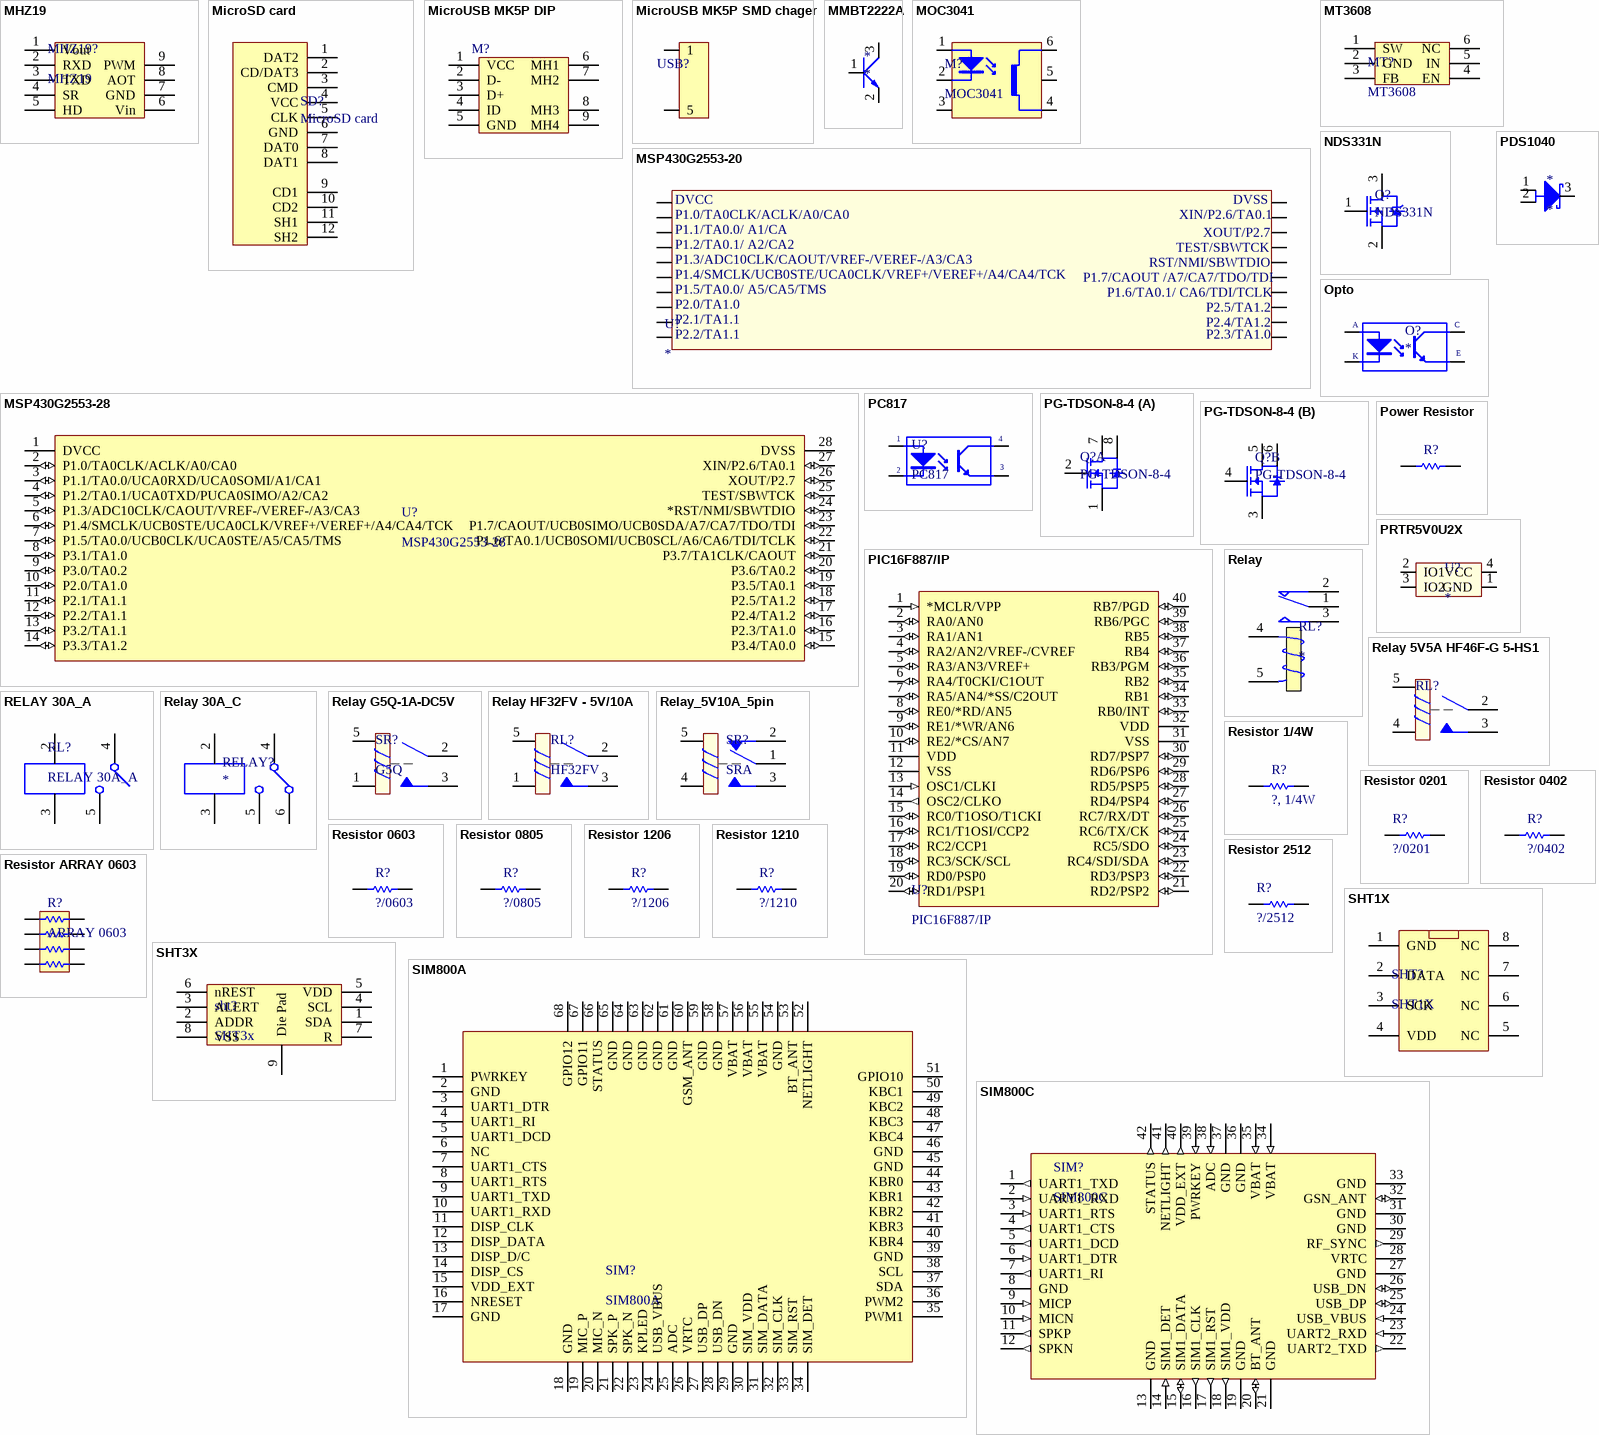
[diagram p6: symbols MHZ19 to SIM800C]

## MHZ19
designator MHZ19?
Sensor CO2
footprint MHZ19 (Sensor CO2)
pins: 1 Vout, 2 RXD, 3 TXD, 4 SR, 5 HD, 6 Vin, 7 GND, 8 AOT, 9 PWM

## MicroSD card
designator SD?
footprint MicroSD card socket V5
footprint SD-CARD
footprint MICRO SD V3 (SMD, MICRO SD TF V3)
pins: 1 DAT2, 2 CD/DAT3, 3 CMD, 4 VCC, 5 CLK, 6 GND, 7 DAT0, 8 DAT1, 9 CD1, 10 CD2, 11 SH1, 12 SH2

## MicroUSB MK5P DIP
designator M?  (value not drawn)
footprint MicroUSB MK5P DIP (DIP.)
footprint MicroUSB MK5P SMD (SMD, Micor B)
pins: 1 VCC, 2 D-, 3 D+, 4 ID, 5 GND, 6 MH1, 7 MH2, 8 MH3, 9 MH4

## MicroUSB MK5P SMD chager
designator USB?  (value not drawn)
footprint MicroUSB MK5P CHAGER
pins: 1, 5

## MMBT2222A
designator *
footprint MMBT2222a (NPN 40V transistor)
pins: 1 B, 2 E, 3 C

## MOC3041
designator M?
MOC3041, THOUGHT, OPTO
footprint MOC3041 DIP 6 (thought)
footprint MOC3021 SMD (MOC3021, SMD 6P, 2.54MM)
pins: 1 A "Anode", 2 K "Cathode", 3 NC, 4 MAIN TERM, 5 NC, 6 MAIN TERM

## MSP430G2553-20
designator U?
SOIC20 8bit MCUs
footprint MSP430G2553-SOIC20 (PWG20)
footprint MSP430G2553 DIP20
pins: 1, 2, 3, 4, 5, 6, 7, 8, 9, 10, 11, 12, 13, 14, 15, 16, 17, 18, 19, 20
text: DVCC; DVSS; P1.0/TA0CLK/ACLK/A0/CA0; XIN/P2.6/TA0.1; P1.1/TA0.0/ A1/CA; XOUT/P2.7; P1.2/TA0.1/ A2/CA2; TEST/SBWTCK; P1.3/ADC10CLK/CAOUT/VREF-/VEREF-/A3/CA3; RST/NMI/SBWTDIO; P1.4/SMCLK/UCB0STE/UCA0CLK/VREF+/VEREF+/A4/CA4/TCK; P1.7/CAOUT /A7/CA7/TDO/TDI; P1.5/TA0.0/ A5/CA5/TMS; P1.6/TA0.1/ CA6/TDI/TCLK; P2.0/TA1.0; P2.5/TA1.2; P2.1/TA1.1; P2.4/TA1.2; P2.2/TA1.1; P2.3/TA1.0

## MSP430G2553-28
designator U?
SOIC28 8bit MCUs
footprint MSP430G2553-SOIC28 (PWG28)
pins: 1 DVCC (power), 2 P1.0/TA0CLK/ACLK/A0/CA0 (io), 3 P1.1/TA0.0/UCA0RXD/UCA0SOMI/A1/CA1 (io), 4 P1.2/TA0.1/UCA0TXD/PUCA0SIMO/A2/CA2 (io), 5 P1.3/ADC10CLK/CAOUT/VREF-/VEREF-/A3/CA3 (io), 6 P1.4/SMCLK/UCB0STE/UCA0CLK/VREF+/VEREF+/A4/CA4/TCK (io), 7 P1.5/TA0.0/UCB0CLK/UCA0STE/A5/CA5/TMS (io), 8 P3.1/TA1.0 (io), 9 P3.0/TA0.2 (io), 10 P2.0/TA1.0 (io), 11 P2.1/TA1.1 (io), 12 P2.2/TA1.1 (io), 13 P3.2/TA1.1 (io), 14 P3.3/TA1.2 (io), 15 P3.4/TA0.0 (io), 16 P2.3/TA1.0 (io), 17 P2.4/TA1.2 (io), 18 P2.5/TA1.2 (io), 19 P3.5/TA0.1 (io), 20 P3.6/TA0.2 (io), 21 P3.7/TA1CLK/CAOUT (io), 22 P1.6/TA0.1/UCB0SOMI/UCB0SCL/A6/CA6/TDI/TCLK (io), 23 P1.7/CAOUT/UCB0SIMO/UCB0SDA/A7/CA7/TDO/TDI (io), 24 *RST/NMI/SBWTDIO (io), 25 TEST/SBWTCK (io), 26 XOUT/P2.7 (io), 27 XIN/P2.6/TA0.1 (io), 28 DVSS (power)

## MT3608
designator MT?
footprint MT3608 (OUTPUT BOOT 5V TO 28V, SMD, SOT23-6)
pins: 1 SW, 2 GND, 3 FB, 4 EN, 5 IN, 6 NC

## NDS331N
designator Q?
footprint NDS331N (SuperSOT-3 N channel Mode FET)
pins: 1, 2, 3

## Opto
designator O?
footprint PC817
pins: 1 A "Anode", 2 K "Cathode", 3 E "Emitter", 4 C "Collector"

## PC817
designator U?
footprint PC817_though (though, 4 pin)
footprint EL817 (EL817 - OC817, SMD, 2.54MM)
pins: 1 A "Anode", 2 K "Cathode", 3 E "Emitter", 4 C "Collector"

## PDS1040
designator *
footprint PDS1040 (DIOD 10A SCHOTTKY BARRIER RECTIFIER)
pins: 1, 2, 3

## PG-TDSON-8-4
designator Q?
footprint PG-TDSON-8-4 (Dual N-Channel MOSFET)
part A pins: 1, 2, 7, 8
part B pins: 3, 4, 5, 6

## PIC16F887/IP
designator U?
MCU 8bit 8KB 4-5.5V 20MHz DIP40; ComponentLink1URL: D:\Dropbox\Datasheets\Microcontrolers\PIC\PIC16F87XA.pdf; ComponentLink1Description: Datasheet; Unit Price: 4.9400
footprint PIC16F887 (40 PIN, W 15.24mm, Pin to pin 2.54mm)
pins: 1 *MCLR/VPP (in), 2 RA0/AN0 (io), 3 RA1/AN1 (io), 4 RA2/AN2/VREF-/CVREF (io), 5 RA3/AN3/VREF+ (io), 6 RA4/T0CKI/C1OUT (io), 7 RA5/AN4/*SS/C2OUT (io), 8 RE0/*RD/AN5 (io), 9 RE1/*WR/AN6 (io), 10 RE2/*CS/AN7 (io), 11 VDD (power), 12 VSS (power), 13 OSC1/CLKI (in), 14 OSC2/CLKO (out), 15 RC0/T1OSO/T1CKI (io), 16 RC1/T1OSI/CCP2 (io), 17 RC2/CCP1 (io), 18 RC3/SCK/SCL (io), 19 RD0/PSP0 (io), 20 RD1/PSP1 (io), 21 RD2/PSP2 (io), 22 RD3/PSP3 (io), 23 RC4/SDI/SDA (io), 24 RC5/SDO (io), 25 RC6/TX/CK (io), 26 RC7/RX/DT (io), 27 RD4/PSP4 (io), 28 RD5/PSP5 (io), 29 RD6/PSP6 (io), 30 RD7/PSP7 (io), 31 VSS (power), 32 VDD (power), 33 RB0/INT (io), 34 RB1 (io), 35 RB2 (io), 36 RB3/PGM (io), 37 RB4 (io), 38 RB5 (io), 39 RB6/PGC (io), 40 RB7/PGD (io)

## Power Resistor
designator R?
footprint RES 1W (CFR01W)
footprint RES 2W (Resistor 2W)
pins: 1, 2

## PRTR5V0U2X
designator U?
footprint PRTR5V0U2X (SOT143B)
pins: 1 GND, 2 IO1, 3 IO2, 4 VCC

## Relay
designator RL?
footprint Relay10A5V (19.1x15.3mm)
pins: 1 COM, 2 NC, 3 NO, 4 T1, 5 T2

## Relay 5V5A HF46F-G 5-HS1
designator RL?  (value not drawn)
footprint HF46F-G (relay 5V 5A, 4pin, AC5N - S - DC5V)
pins: 2, 3, 4, 5

## RELAY 30A_A
designator RL?
Relay 5V30A 4C SLA-05VDC-SL-A
footprint RELAY_30A_A
pins: 2, 3, 4, 5

## Relay 30A_C
designator RELAY?
footprint Relay 30A_C (Relay Song Le mau xanh, 31.8mmx27.4mm, 6 pin)
pins: 2, 3, 4, 5, 6

## Relay G5Q-1A-DC5V
designator SR?, comment G5Q
Relay G5Q-1A-DC5V
footprint Relay_5V10A G5Q-1A-DC5V (5V10A G5Q-1A-DC5V)
pins: 1, 2, 3, 5

## Relay HF32FV - 5V/10A
designator RL?, comment HF32FV
Relay HF32FV - 5V/10A
footprint RELAY_5V8A HF32FV-G
pins: 1, 2, 3, 5

## Relay_5V10A_5pin
designator SR?, comment SRA
Relay_5V10A_5pin
footprint RELAY_5V20A_SRA (5 PIN. THOUGHT)
pins: 1, 2, 3, 4, 5

## Resistor 1/4W
designator R?, comment ?, 1/4W
Resistor through hole 1/4W
footprint CR25S (Resistor 1/4W)
footprint RES 2512(6332)
footprint R_Sense 5mR (R_Sense 5mR, 10mm*1.5mm*5.7mm)
footprint R_Sense 1mR (SMD)
pins: 1, 2

## Resistor 0201
designator R?, comment ?/0201
Resistor 0201
footprint RES 0201(0603) (Resistor 0201)
pins: 1, 2

## Resistor 0402
designator R?, comment ?/0402
Resistor 0402
footprint RES 0402(1005) (Resistor 0402)
pins: 1, 2